# Altium schematic symbol library CHXXX.schlib: 532 symbols (part 7 of 8)
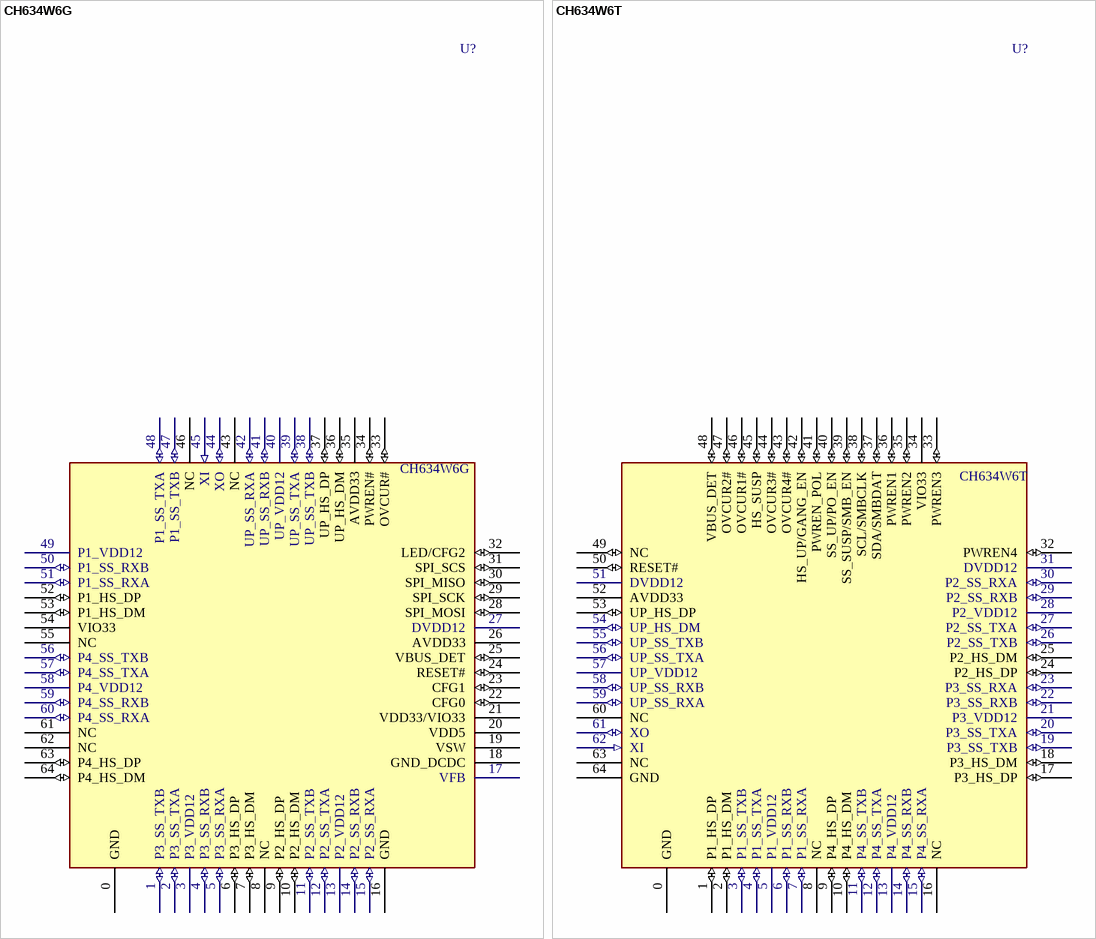
[diagram p76: symbols CH634W6G to CH634W6T]

## CH634W6T
designator U?
4 ports USB 3.0 SS hub
footprint QFN64_9X9
pins: 0 GND (power), 1 P1_HS_DP (io), 2 P1_HS_DM (io), 3 P1_SS_TXB (io), 4 P1_SS_TXA (io), 5 P1_VDD12 (power), 6 P1_SS_RXB (io), 7 P1_SS_RXA (io), 8 NC, 9 P4_HS_DP (io), 10 P4_HS_DM (io), 11 P4_SS_TXB (io), 12 P4_SS_TXA (io), 13 P4_VDD12 (power), 14 P4_SS_RXB (io), 15 P4_SS_RXA (io), 16 NC, 17 P3_HS_DP (io), 18 P3_HS_DM (io), 19 P3_SS_TXB (io), 20 P3_SS_TXA (io), 21 P3_VDD12 (power), 22 P3_SS_RXB (io), 23 P3_SS_RXA (io), 24 P2_HS_DP (io), 25 P2_HS_DM (io), 26 P2_SS_TXB (io), 27 P2_SS_TXA (io), 28 P2_VDD12 (power), 29 P2_SS_RXB (io), 30 P2_SS_RXA (io), 31 DVDD12 (power), 32 PWREN4 (io), 33 PWREN3 (io), 34 VIO33 (power), 35 PWREN2 (io), 36 PWREN1 (io), 37 SDA/SMBDAT (io), 38 SCL/SMBCLK (io), 39 SS_SUSP/SMB_EN (io), 40 SS_UP/PO_EN (io), 41 PWREN_POL (io), 42 HS_UP/GANG_EN (io), 43 OVCUR4# (io), 44 OVCUR3# (io), 45 HS_SUSP (io), 46 OVCUR1# (io), 47 OVCUR2# (io), 48 VBUS_DET (io), 49 NC (io), 50 RESET# (io), 51 DVDD12 (power), 52 AVDD33 (power), 53 UP_HS_DP (io), 54 UP_HS_DM (io), 55 UP_SS_TXB (io), 56 UP_SS_TXA (io), 57 UP_VDD12 (power), 58 UP_SS_RXB (io), 59 UP_SS_RXA (io), 60 NC, 61 XO (io), 62 XI (in), 63 NC, 64 GND (power)

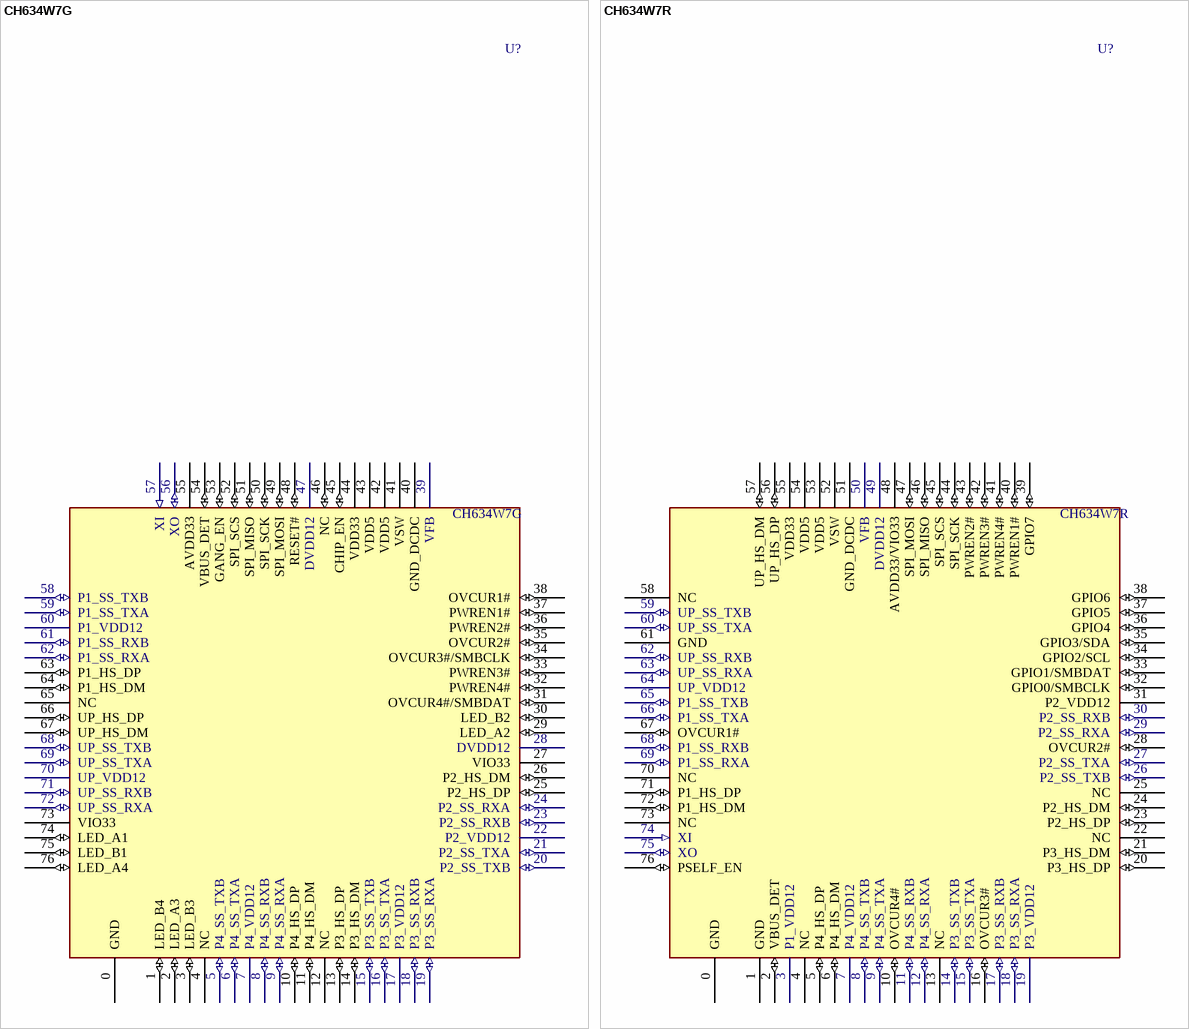
[diagram p57: symbols CH634W7G to CH634W7R]

## CH634W7G
designator U?
4 ports USB 3.0 SS hub
footprint QFN76_9X9
pins: 0 GND (power), 1 LED_B4 (io), 2 LED_A3 (io), 3 LED_B3 (io), 4 NC, 5 P4_SS_TXB (io), 6 P4_SS_TXA (io), 7 P4_VDD12 (power), 8 P4_SS_RXB (io), 9 P4_SS_RXA (io), 10 P4_HS_DP (io), 11 P4_HS_DM (io), 12 NC, 13 P3_HS_DP (io), 14 P3_HS_DM (io), 15 P3_SS_TXB (io), 16 P3_SS_TXA (io), 17 P3_VDD12 (power), 18 P3_SS_RXB (io), 19 P3_SS_RXA (io), 20 P2_SS_TXB (io), 21 P2_SS_TXA (io), 22 P2_VDD12 (power), 23 P2_SS_RXB (io), 24 P2_SS_RXA (io), 25 P2_HS_DP (io), 26 P2_HS_DM (io), 27 VIO33 (power), 28 DVDD12 (power), 29 LED_A2 (io), 30 LED_B2 (io), 31 OVCUR4#/SMBDAT (io), 32 PWREN4# (io), 33 PWREN3# (io), 34 OVCUR3#/SMBCLK (io), 35 OVCUR2# (io), 36 PWREN2# (io), 37 PWREN1# (io), 38 OVCUR1# (io), 39 VFB (power), 40 GND_DCDC (power), 41 VSW (power), 42 VDD5 (power), 43 VDD5 (power), 44 VDD33 (power), 45 CHIP_EN (io), 46 NC (io), 47 DVDD12 (power), 48 RESET# (io), 49 SPI_MOSI (io), 50 SPI_SCK (io), 51 SPI_MISO (io), 52 SPI_SCS (io), 53 GANG_EN (io), 54 VBUS_DET (io), 55 AVDD33 (power), 56 XO (io), 57 XI (in), 58 P1_SS_TXB (io), 59 P1_SS_TXA (io), 60 P1_VDD12 (power), 61 P1_SS_RXB (io), 62 P1_SS_RXA (io), 63 P1_HS_DP (io), 64 P1_HS_DM (io), 65 NC, 66 UP_HS_DP (io), 67 UP_HS_DM (io), 68 UP_SS_TXB (io), 69 UP_SS_TXA (io), 70 UP_VDD12 (power), 71 UP_SS_RXB (io), 72 UP_SS_RXA (io), 73 VIO33 (power), 74 LED_A1 (io), 75 LED_B1 (io), 76 LED_A4 (io)

## CH634W7R
designator U?
4 ports USB 3.0 SS hub
footprint QFN76_9X9
pins: 0 GND (power), 1 GND (power), 2 VBUS_DET (io), 3 P1_VDD12 (power), 4 NC, 5 P4_HS_DP (io), 6 P4_HS_DM (io), 7 P4_VDD12 (power), 8 P4_SS_TXB (io), 9 P4_SS_TXA (io), 10 OVCUR4# (io), 11 P4_SS_RXB (io), 12 P4_SS_RXA (io), 13 NC, 14 P3_SS_TXB (io), 15 P3_SS_TXA (io), 16 OVCUR3# (io), 17 P3_SS_RXB (io), 18 P3_SS_RXA (io), 19 P3_VDD12 (power), 20 P3_HS_DP (io), 21 P3_HS_DM (io), 22 NC, 23 P2_HS_DP (io), 24 P2_HS_DM (io), 25 NC, 26 P2_SS_TXB (io), 27 P2_SS_TXA (io), 28 OVCUR2# (io), 29 P2_SS_RXA (io), 30 P2_SS_RXB (io), 31 P2_VDD12 (power), 32 GPIO0/SMBCLK (io), 33 GPIO1/SMBDAT (io), 34 GPIO2/SCL (io), 35 GPIO3/SDA (io), 36 GPIO4 (io), 37 GPIO5 (io), 38 GPIO6 (io), 39 GPIO7 (io), 40 PWREN1# (io), 41 PWREN4# (io), 42 PWREN3# (io), 43 PWREN2# (io), 44 SPI_SCK (io), 45 SPI_SCS (io), 46 SPI_MISO (io), 47 SPI_MOSI (io), 48 AVDD33/VIO33 (power), 49 DVDD12 (power), 50 VFB (power), 51 GND_DCDC (power), 52 VSW (power), 53 VDD5 (power), 54 VDD5 (power), 55 VDD33 (power), 56 UP_HS_DP (io), 57 UP_HS_DM (io), 58 NC, 59 UP_SS_TXB (io), 60 UP_SS_TXA (io), 61 GND (power), 62 UP_SS_RXB (io), 63 UP_SS_RXA (io), 64 UP_VDD12 (power), 65 P1_SS_TXB (io), 66 P1_SS_TXA (io), 67 OVCUR1# (io), 68 P1_SS_RXB (io), 69 P1_SS_RXA (io), 70 NC, 71 P1_HS_DP (io), 72 P1_HS_DM (io), 73 NC, 74 XI (in), 75 XO (io), 76 PSELF_EN (io)

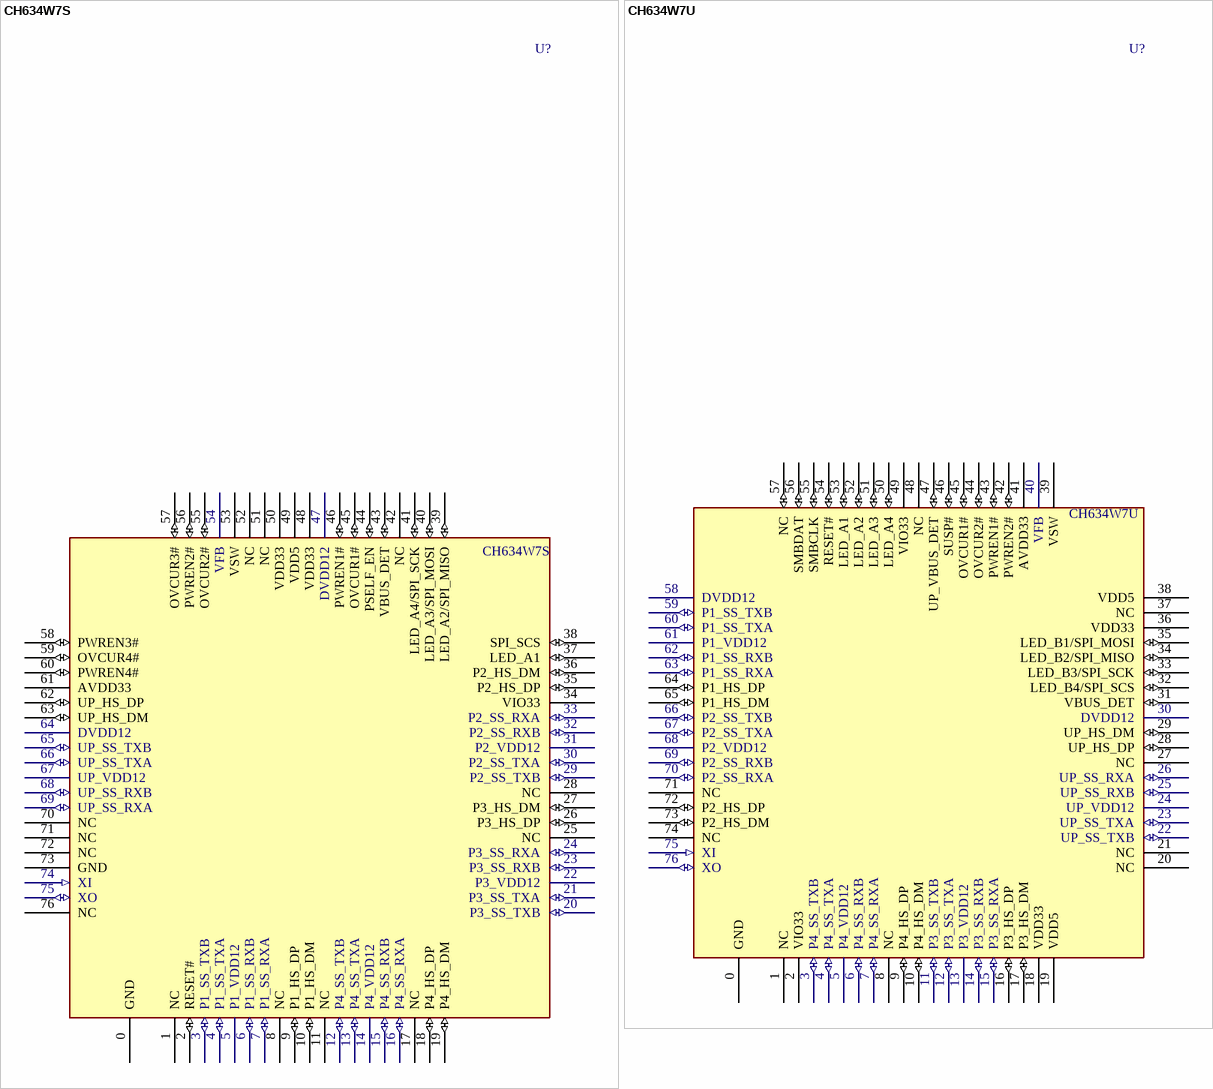
[diagram p58: symbols CH634W7S to CH634W7U]

## CH634W7S
designator U?
4 ports USB 3.0 SS hub
footprint QFN76_9X9
pins: 0 GND (power), 1 NC, 2 RESET# (io), 3 P1_SS_TXB (io), 4 P1_SS_TXA (io), 5 P1_VDD12 (power), 6 P1_SS_RXB (io), 7 P1_SS_RXA (io), 8 NC, 9 P1_HS_DP (io), 10 P1_HS_DM (io), 11 NC, 12 P4_SS_TXB (io), 13 P4_SS_TXA (io), 14 P4_VDD12 (power), 15 P4_SS_RXB (io), 16 P4_SS_RXA (io), 17 NC, 18 P4_HS_DP (io), 19 P4_HS_DM (io), 20 P3_SS_TXB (io), 21 P3_SS_TXA (io), 22 P3_VDD12 (power), 23 P3_SS_RXB (io), 24 P3_SS_RXA (io), 25 NC, 26 P3_HS_DP (io), 27 P3_HS_DM (io), 28 NC, 29 P2_SS_TXB (io), 30 P2_SS_TXA (io), 31 P2_VDD12 (power), 32 P2_SS_RXB (io), 33 P2_SS_RXA (io), 34 VIO33 (power), 35 P2_HS_DP (io), 36 P2_HS_DM (io), 37 LED_A1 (io), 38 SPI_SCS (io), 39 LED_A2/SPI_MISO (io), 40 LED_A3/SPI_MOSI (io), 41 LED_A4/SPI_SCK (io), 42 NC, 43 VBUS_DET (io), 44 PSELF_EN (io), 45 OVCUR1# (io), 46 PWREN1# (io), 47 DVDD12 (power), 48 VDD33 (power), 49 VDD5 (power), 50 VDD33 (power), 51 NC, 52 NC, 53 VSW (power), 54 VFB (power), 55 OVCUR2# (io), 56 PWREN2# (io), 57 OVCUR3# (io), 58 PWREN3# (io), 59 OVCUR4# (io), 60 PWREN4# (io), 61 AVDD33 (power), 62 UP_HS_DP (io), 63 UP_HS_DM (io), 64 DVDD12 (power), 65 UP_SS_TXB (io), 66 UP_SS_TXA (io), 67 UP_VDD12 (power), 68 UP_SS_RXB (io), 69 UP_SS_RXA (io), 70 NC, 71 NC, 72 NC, 73 GND (power), 74 XI (in), 75 XO (io), 76 NC

## CH634W7U
designator U?
4 ports USB 3.0 SS hub
footprint QFN76_9X9
pins: 0 GND (power), 1 NC, 2 VIO33 (power), 3 P4_SS_TXB (io), 4 P4_SS_TXA (io), 5 P4_VDD12 (power), 6 P4_SS_RXB (io), 7 P4_SS_RXA (io), 8 NC, 9 P4_HS_DP (io), 10 P4_HS_DM (io), 11 P3_SS_TXB (io), 12 P3_SS_TXA (io), 13 P3_VDD12 (power), 14 P3_SS_RXB (io), 15 P3_SS_RXA (io), 16 P3_HS_DP (io), 17 P3_HS_DM (io), 18 VDD33 (power), 19 VDD5 (power), 20 NC, 21 NC, 22 UP_SS_TXB (io), 23 UP_SS_TXA (io), 24 UP_VDD12 (power), 25 UP_SS_RXB (io), 26 UP_SS_RXA (io), 27 NC, 28 UP_HS_DP (io), 29 UP_HS_DM (io), 30 DVDD12 (power), 31 VBUS_DET (io), 32 LED_B4/SPI_SCS (io), 33 LED_B3/SPI_SCK (io), 34 LED_B2/SPI_MISO (io), 35 LED_B1/SPI_MOSI (io), 36 VDD33 (power), 37 NC, 38 VDD5 (power), 39 VSW (power), 40 VFB (power), 41 AVDD33 (power), 42 PWREN2# (io), 43 PWREN1# (io), 44 OVCUR2# (io), 45 OVCUR1# (io), 46 SUSP# (io), 47 UP_VBUS_DET (io), 48 NC, 49 VIO33 (power), 50 LED_A4 (io), 51 LED_A3 (io), 52 LED_A2 (io), 53 LED_A1 (io), 54 RESET# (io), 55 SMBCLK (io), 56 SMBDAT (io), 57 NC (io), 58 DVDD12 (power), 59 P1_SS_TXB (io), 60 P1_SS_TXA (io), 61 P1_VDD12 (power), 62 P1_SS_RXB (io), 63 P1_SS_RXA (io), 64 P1_HS_DP (io), 65 P1_HS_DM (io), 66 P2_SS_TXB (io), 67 P2_SS_TXA (io), 68 P2_VDD12 (power), 69 P2_SS_RXB (io), 70 P2_SS_RXA (io), 71 NC, 72 P2_HS_DP (io), 73 P2_HS_DM (io), 74 NC, 75 XI (in), 76 XO (io)

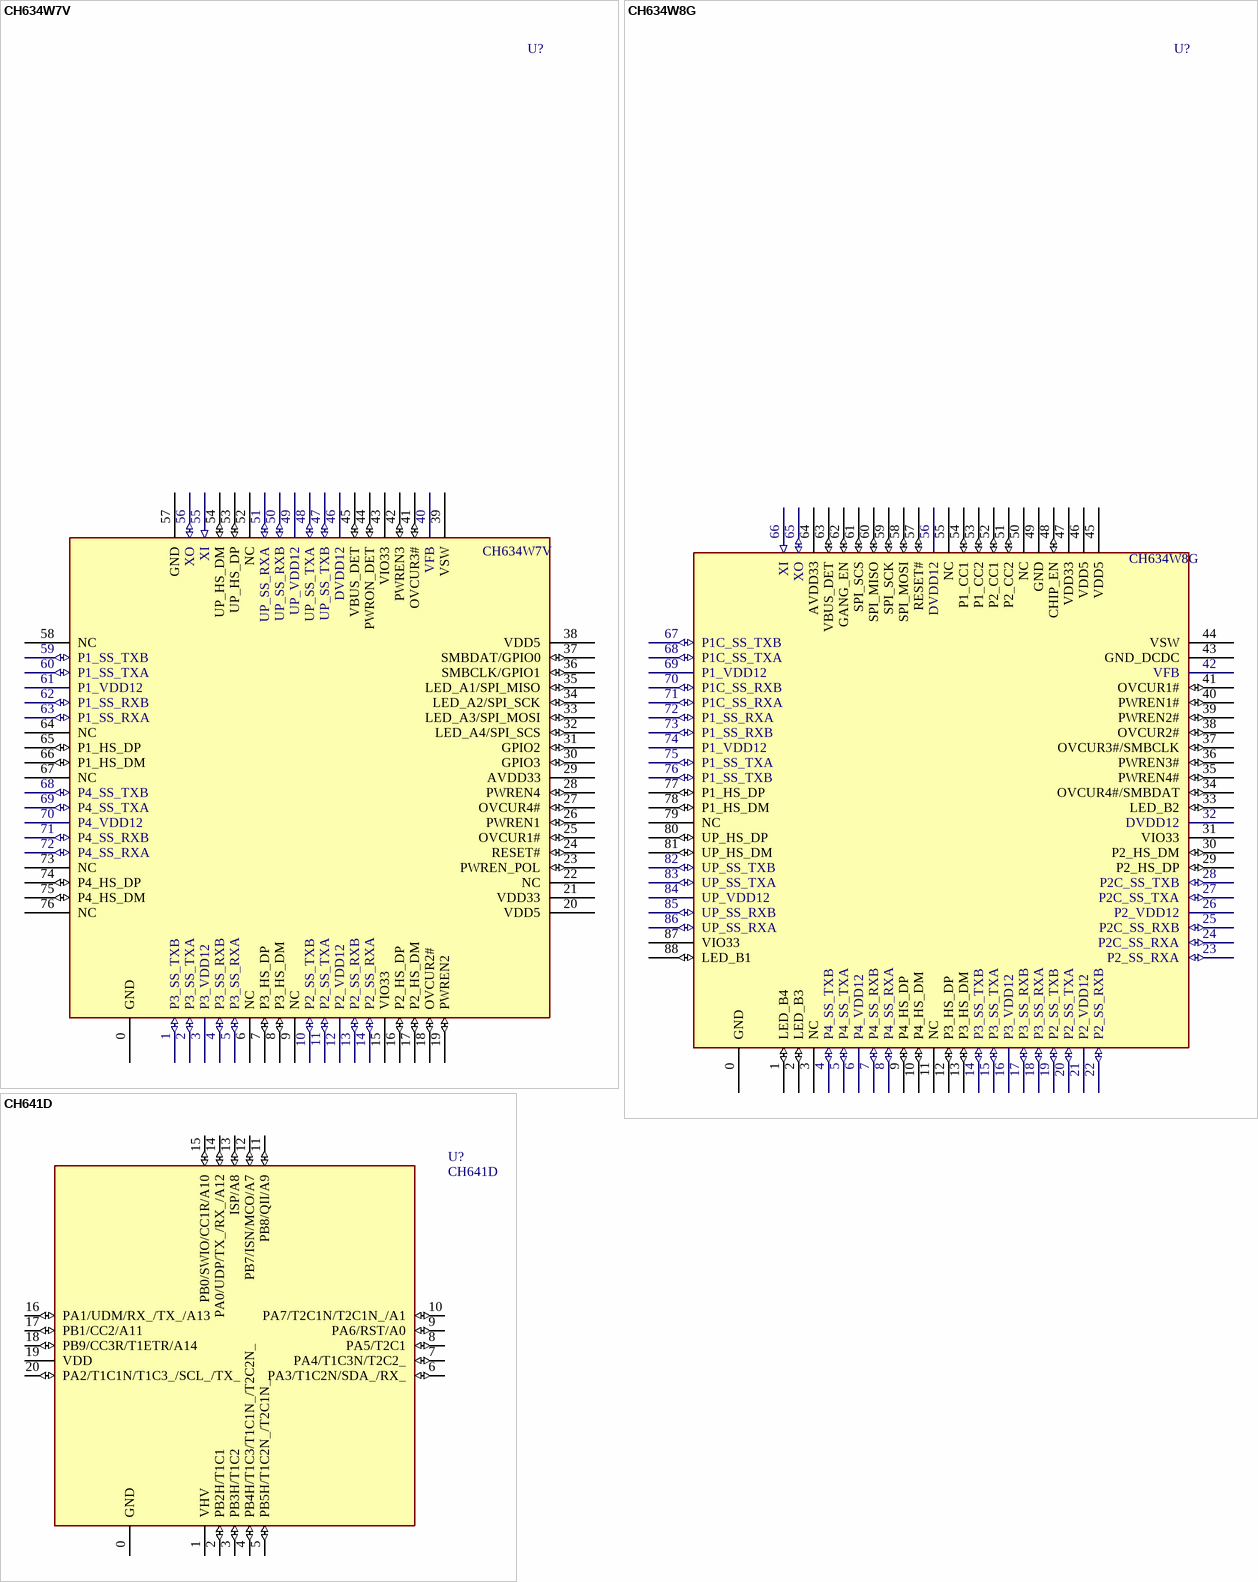
[diagram p59: symbols CH634W7V to CH641D]

## CH634W7V
designator U?
4 ports USB 3.0 SS hub
footprint QFN76_9X9
pins: 0 GND (power), 1 P3_SS_TXB (io), 2 P3_SS_TXA (io), 3 P3_VDD12 (power), 4 P3_SS_RXB (io), 5 P3_SS_RXA (io), 6 NC, 7 P3_HS_DP (io), 8 P3_HS_DM (io), 9 NC, 10 P2_SS_TXB (io), 11 P2_SS_TXA (io), 12 P2_VDD12 (power), 13 P2_SS_RXB (io), 14 P2_SS_RXA (io), 15 VIO33 (power), 16 P2_HS_DP (io), 17 P2_HS_DM (io), 18 OVCUR2# (io), 19 PWREN2 (io), 20 VDD5 (power), 21 VDD33 (power), 22 NC, 23 PWREN_POL (io), 24 RESET# (io), 25 OVCUR1# (io), 26 PWREN1 (io), 27 OVCUR4# (io), 28 PWREN4 (io), 29 AVDD33 (power), 30 GPIO3 (io), 31 GPIO2 (io), 32 LED_A4/SPI_SCS (io), 33 LED_A3/SPI_MOSI (io), 34 LED_A2/SPI_SCK (io), 35 LED_A1/SPI_MISO (io), 36 SMBCLK/GPIO1 (io), 37 SMBDAT/GPIO0 (io), 38 VDD5 (power), 39 VSW (power), 40 VFB (power), 41 OVCUR3# (io), 42 PWREN3 (io), 43 VIO33 (power), 44 PWRON_DET (io), 45 VBUS_DET (io), 46 DVDD12 (power), 47 UP_SS_TXB (io), 48 UP_SS_TXA (io), 49 UP_VDD12 (power), 50 UP_SS_RXB (io), 51 UP_SS_RXA (io), 52 NC, 53 UP_HS_DP (io), 54 UP_HS_DM (io), 55 XI (in), 56 XO (io), 57 GND (power), 58 NC, 59 P1_SS_TXB (io), 60 P1_SS_TXA (io), 61 P1_VDD12 (power), 62 P1_SS_RXB (io), 63 P1_SS_RXA (io), 64 NC, 65 P1_HS_DP (io), 66 P1_HS_DM (io), 67 NC, 68 P4_SS_TXB (io), 69 P4_SS_TXA (io), 70 P4_VDD12 (power), 71 P4_SS_RXB (io), 72 P4_SS_RXA (io), 73 NC, 74 P4_HS_DP (io), 75 P4_HS_DM (io), 76 NC

## CH634W8G
designator U?
4 ports USB 3.0 SS hub
footprint QFN88_10X10
pins: 0 GND (power), 1 LED_B4 (io), 2 LED_B3 (io), 3 NC, 4 P4_SS_TXB (io), 5 P4_SS_TXA (io), 6 P4_VDD12 (power), 7 P4_SS_RXB (io), 8 P4_SS_RXA (io), 9 P4_HS_DP (io), 10 P4_HS_DM (io), 11 NC, 12 P3_HS_DP (io), 13 P3_HS_DM (io), 14 P3_SS_TXB (io), 15 P3_SS_TXA (io), 16 P3_VDD12 (power), 17 P3_SS_RXB (io), 18 P3_SS_RXA (io), 19 P2_SS_TXB (io), 20 P2_SS_TXA (io), 21 P2_VDD12 (power), 22 P2_SS_RXB (io), 23 P2_SS_RXA (io), 24 P2C_SS_RXA (io), 25 P2C_SS_RXB (io), 26 P2_VDD12 (power), 27 P2C_SS_TXA (io), 28 P2C_SS_TXB (io), 29 P2_HS_DP (io), 30 P2_HS_DM (io), 31 VIO33 (power), 32 DVDD12 (power), 33 LED_B2 (io), 34 OVCUR4#/SMBDAT (io), 35 PWREN4# (io), 36 PWREN3# (io), 37 OVCUR3#/SMBCLK (io), 38 OVCUR2# (io), 39 PWREN2# (io), 40 PWREN1# (io), 41 OVCUR1# (io), 42 VFB (power), 43 GND_DCDC (power), 44 VSW (power), 45 VDD5 (power), 46 VDD5 (power), 47 VDD33 (power), 48 CHIP_EN (io), 49 GND (power), 50 NC, 51 P2_CC2 (io), 52 P2_CC1 (io), 53 P1_CC2 (io), 54 P1_CC1 (io), 55 NC, 56 DVDD12 (power), 57 RESET# (io), 58 SPI_MOSI (io), 59 SPI_SCK (io), 60 SPI_MISO (io), 61 SPI_SCS (io), 62 GANG_EN (io), 63 VBUS_DET (io), 64 AVDD33 (power), 65 XO (io), 66 XI (in), 67 P1C_SS_TXB (io), 68 P1C_SS_TXA (io), 69 P1_VDD12 (power), 70 P1C_SS_RXB (io), 71 P1C_SS_RXA (io), 72 P1_SS_RXA (io), 73 P1_SS_RXB (io), 74 P1_VDD12 (power), 75 P1_SS_TXA (io), 76 P1_SS_TXB (io), 77 P1_HS_DP (io), 78 P1_HS_DM (io), 79 NC, 80 UP_HS_DP (io), 81 UP_HS_DM (io), 82 UP_SS_TXB (io), 83 UP_SS_TXA (io), 84 UP_VDD12 (power), 85 UP_SS_RXB (io), 86 UP_SS_RXA (io), 87 VIO33 (power), 88 LED_B1 (io)

## CH641D
designator U?
RISC-V MCU with PD/ADC/UART/OA, for wireless charging
footprint QFN20_3X3
pins: 0 GND (power), 1 VHV (power), 2 PB2H/T1C1 (io), 3 PB3H/T1C2 (io), 4 PB4H/T1C3/T1C1N_/T2C2N_ (io), 5 PB5H/T1C2N_/T2C1N_ (io), 6 PA3/T1C2N/SDA_/RX_ (io), 7 PA4/T1C3N/T2C2_ (io), 8 PA5/T2C1 (io), 9 PA6/RST/A0 (io), 10 PA7/T2C1N/T2C1N_/A1 (io), 11 PB8/QII/A9 (io), 12 PB7/ISN/MCO/A7 (io), 13 ISP/A8 (io), 14 PA0/UDP/TX_/RX_/A12 (io), 15 PB0/SWIO/CC1R/A10 (io), 16 PA1/UDM/RX_/TX_/A13 (io), 17 PB1/CC2/A11 (io), 18 PB9/CC3R/T1ETR/A14 (io), 19 VDD (power), 20 PA2/T1C1N/T1C3_/SCL_/TX_ (io)
2 alternate drawings of the same symbol

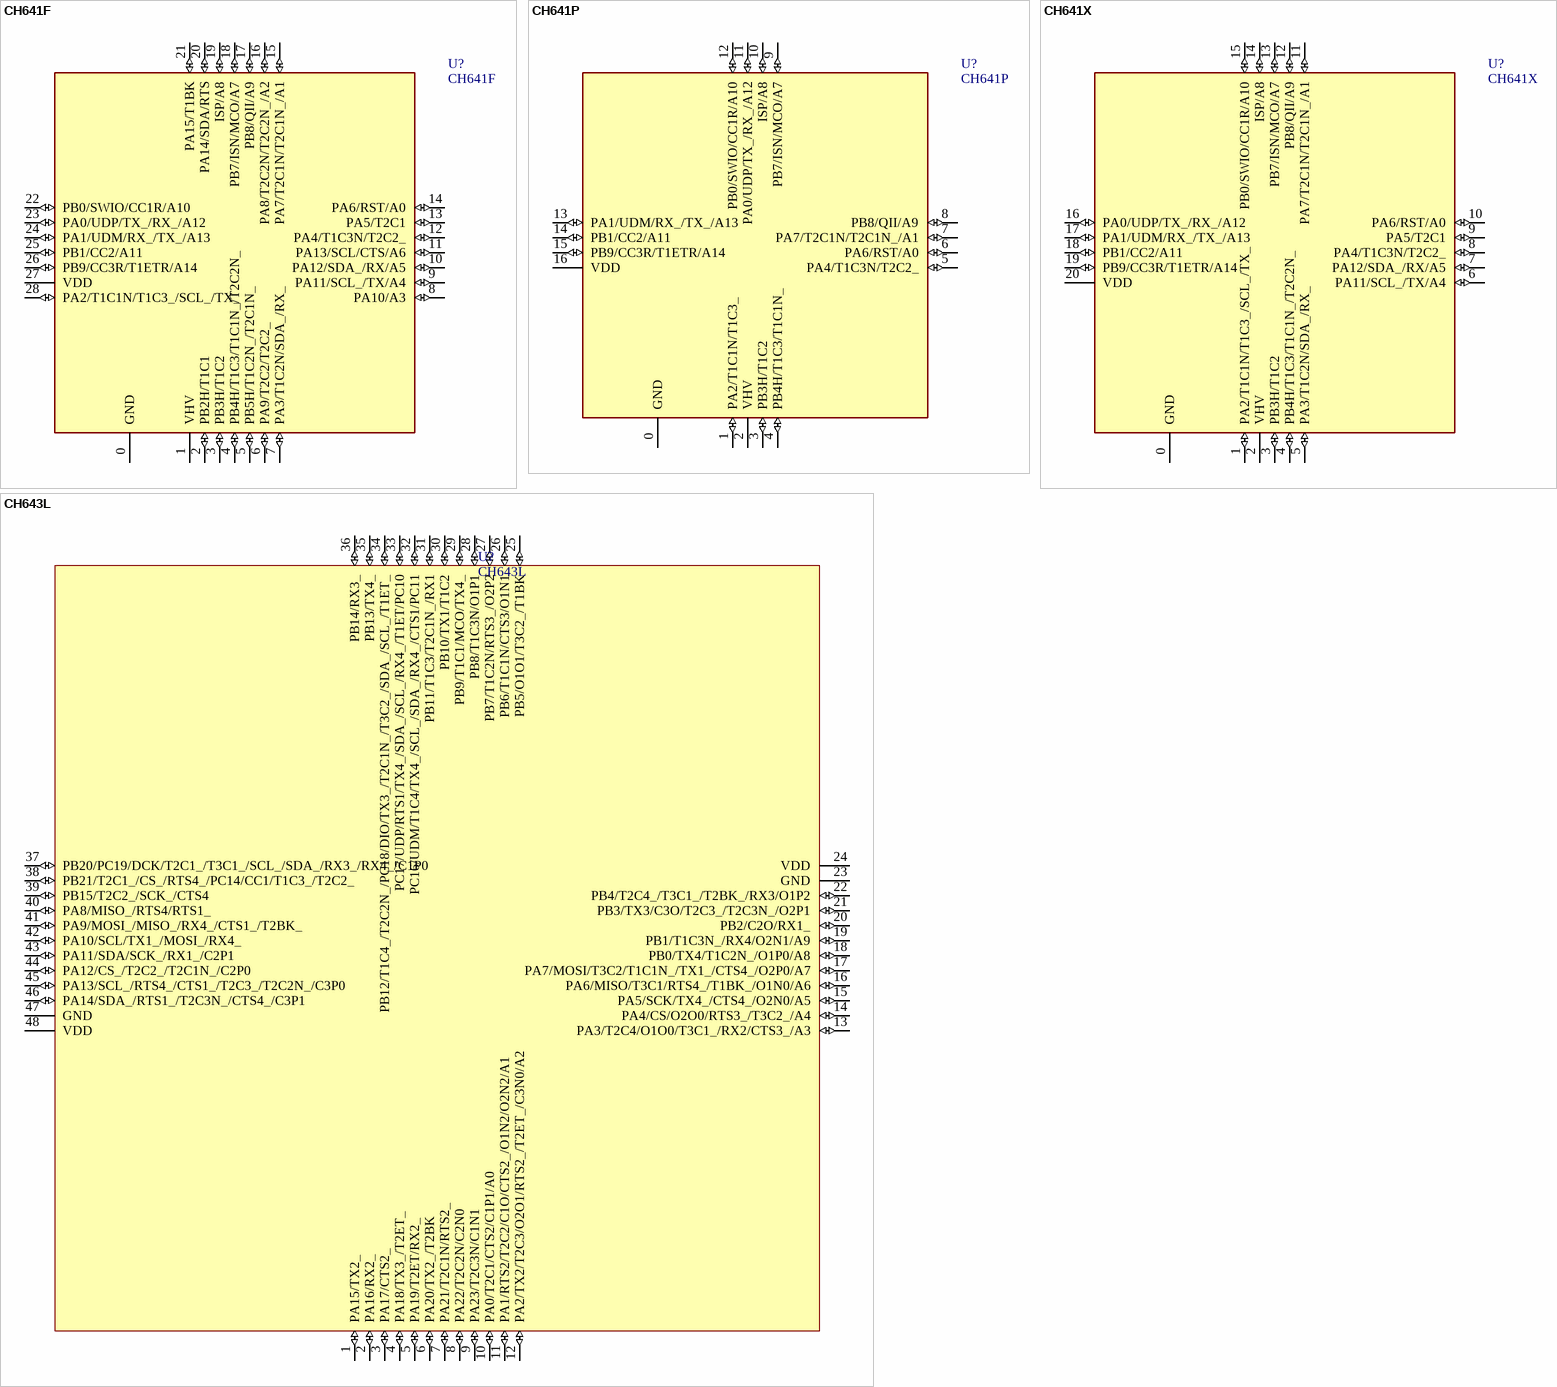
[diagram p60: symbols CH641F to CH643L]

## CH641F
designator U?
RISC-V MCU with PD/ADC/UART/OA, for wireless charging
footprint QFN28_4X4
pins: 0 GND (power), 1 VHV (power), 2 PB2H/T1C1 (io), 3 PB3H/T1C2 (io), 4 PB4H/T1C3/T1C1N_/T2C2N_ (io), 5 PB5H/T1C2N_/T2C1N_ (io), 6 PA9/T2C2/T2C2_ (io), 7 PA3/T1C2N/SDA_/RX_ (io), 8 PA10/A3 (io), 9 PA11/SCL_/TX/A4 (io), 10 PA12/SDA_/RX/A5 (io), 11 PA13/SCL/CTS/A6 (io), 12 PA4/T1C3N/T2C2_ (io), 13 PA5/T2C1 (io), 14 PA6/RST/A0 (io), 15 PA7/T2C1N/T2C1N_/A1 (io), 16 PA8/T2C2N/T2C2N_/A2 (io), 17 PB8/QII/A9 (io), 18 PB7/ISN/MCO/A7 (io), 19 ISP/A8 (io), 20 PA14/SDA/RTS (io), 21 PA15/T1BK (io), 22 PB0/SWIO/CC1R/A10 (io), 23 PA0/UDP/TX_/RX_/A12 (io), 24 PA1/UDM/RX_/TX_/A13 (io), 25 PB1/CC2/A11 (io), 26 PB9/CC3R/T1ETR/A14 (io), 27 VDD (power), 28 PA2/T1C1N/T1C3_/SCL_/TX_ (io)
2 alternate drawings of the same symbol

## CH641P
designator U?
RISC-V MCU with PD/ADC/UART/OA, for wireless charging
footprint QFN16_3X3
pins: 0 GND (power), 1 PA2/T1C1N/T1C3_ (io), 2 VHV (power), 3 PB3H/T1C2 (io), 4 PB4H/T1C3/T1C1N_ (io), 5 PA4/T1C3N/T2C2_ (io), 6 PA6/RST/A0 (io), 7 PA7/T2C1N/T2C1N_/A1 (io), 8 PB8/QII/A9 (io), 9 PB7/ISN/MCO/A7 (io), 10 ISP/A8 (io), 11 PA0/UDP/TX_/RX_/A12 (io), 12 PB0/SWIO/CC1R/A10 (io), 13 PA1/UDM/RX_/TX_/A13 (io), 14 PB1/CC2/A11 (io), 15 PB9/CC3R/T1ETR/A14 (io), 16 VDD (power)
2 alternate drawings of the same symbol

## CH641X
designator U?
RISC-V MCU with PD/ADC/UART/OA, for wireless charging
footprint QFN20_3X3
pins: 0 GND (power), 1 PA2/T1C1N/T1C3_/SCL_/TX_ (io), 2 VHV (power), 3 PB3H/T1C2 (io), 4 PB4H/T1C3/T1C1N_/T2C2N_ (io), 5 PA3/T1C2N/SDA_/RX_ (io), 6 PA11/SCL_/TX/A4 (io), 7 PA12/SDA_/RX/A5 (io), 8 PA4/T1C3N/T2C2_ (io), 9 PA5/T2C1 (io), 10 PA6/RST/A0 (io), 11 PA7/T2C1N/T2C1N_/A1 (io), 12 PB8/QII/A9 (io), 13 PB7/ISN/MCO/A7 (io), 14 ISP/A8 (io), 15 PB0/SWIO/CC1R/A10 (io), 16 PA0/UDP/TX_/RX_/A12 (io), 17 PA1/UDM/RX_/TX_/A13 (io), 18 PB1/CC2/A11 (io), 19 PB9/CC3R/T1ETR/A14 (io), 20 VDD (power)
2 alternate drawings of the same symbol

## CH643L
designator U?
RISC-V MCU with USB/RGB/ADC/SPI/I2C/4*UART/PD
footprint LQFP48 (Footprint not found)
pins: 1 PA15/TX2_ (io), 2 PA16/RX2_ (io), 3 PA17/CTS2_ (io), 4 PA18/TX3_/T2ET_ (io), 5 PA19/T2ET/RX2_ (io), 6 PA20/TX2_/T2BK (io), 7 PA21/T2C1N/RTS2_ (io), 8 PA22/T2C2N/C2N0 (io), 9 PA23/T2C3N/C1N1 (io), 10 PA0/T2C1/CTS2/C1P1/A0 (io), 11 PA1/RTS2/T2C2/C1O/CTS2_/O1N2/O2N2/A1 (io), 12 PA2/TX2/T2C3/O2O1/RTS2_/T2ET_/C3N0/A2 (io), 13 PA3/T2C4/O1O0/T3C1_/RX2/CTS3_/A3 (io), 14 PA4/CS/O2O0/RTS3_/T3C2_/A4 (io), 15 PA5/SCK/TX4_/CTS4_/O2N0/A5 (io), 16 PA6/MISO/T3C1/RTS4_/T1BK_/O1N0/A6 (io), 17 PA7/MOSI/T3C2/T1C1N_/TX1_/CTS4_/O2P0/A7 (io), 18 PB0/TX4/T1C2N_/O1P0/A8 (io), 19 PB1/T1C3N_/RX4/O2N1/A9 (io), 20 PB2/C2O/RX1_ (io), 21 PB3/TX3/C3O/T2C3_/T2C3N_/O2P1 (io), 22 PB4/T2C4_/T3C1_/T2BK_/RX3/O1P2 (io), 23 GND (power), 24 VDD (power), 25 PB5/O1O1/T3C2_/T1BK (io), 26 PB6/T1C1N/CTS3/O1N1 (io), 27 PB7/T1C2N/RTS3_/O2P2 (io), 28 PB8/T1C3N/O1P1 (io), 29 PB9/T1C1/MCO/TX4_ (io), 30 PB10/TX1/T1C2 (io), 31 PB11/T1C3/T2C1N_/RX1 (io), 32 PC16/UDM/T1C4/TX4_/SCL_/SDA_/RX4_/CTS1/PC11 (io), 33 PC17/UDP/RTS1/TX4_/SDA_/SCL_/RX4_/T1ET/PC10 (io), 34 PB12/T1C4_/T2C2N_/PC18/DIO/TX3_/T2C1N_/T3C2_/SDA_/SCL_/T1ET_ (io), 35 PB13/TX4_ (io), 36 PB14/RX3_ (io), 37 PB20/PC19/DCK/T2C1_/T3C1_/SCL_/SDA_/RX3_/RX4_/C1P0 (io), 38 PB21/T2C1_/CS_/RTS4_/PC14/CC1/T1C3_/T2C2_ (io), 39 PB15/T2C2_/SCK_/CTS4 (io), 40 PA8/MISO_/RTS4/RTS1_ (io), 41 PA9/MOSI_/MISO_/RX4_/CTS1_/T2BK_ (io), 42 PA10/SCL/TX1_/MOSI_/RX4_ (io), 43 PA11/SDA/SCK_/RX1_/C2P1 (io), 44 PA12/CS_/T2C2_/T2C1N_/C2P0 (io), 45 PA13/SCL_/RTS4_/CTS1_/T2C3_/T2C2N_/C3P0 (io), 46 PA14/SDA_/RTS1_/T2C3N_/CTS4_/C3P1 (io), 47 GND (power), 48 VDD (power)

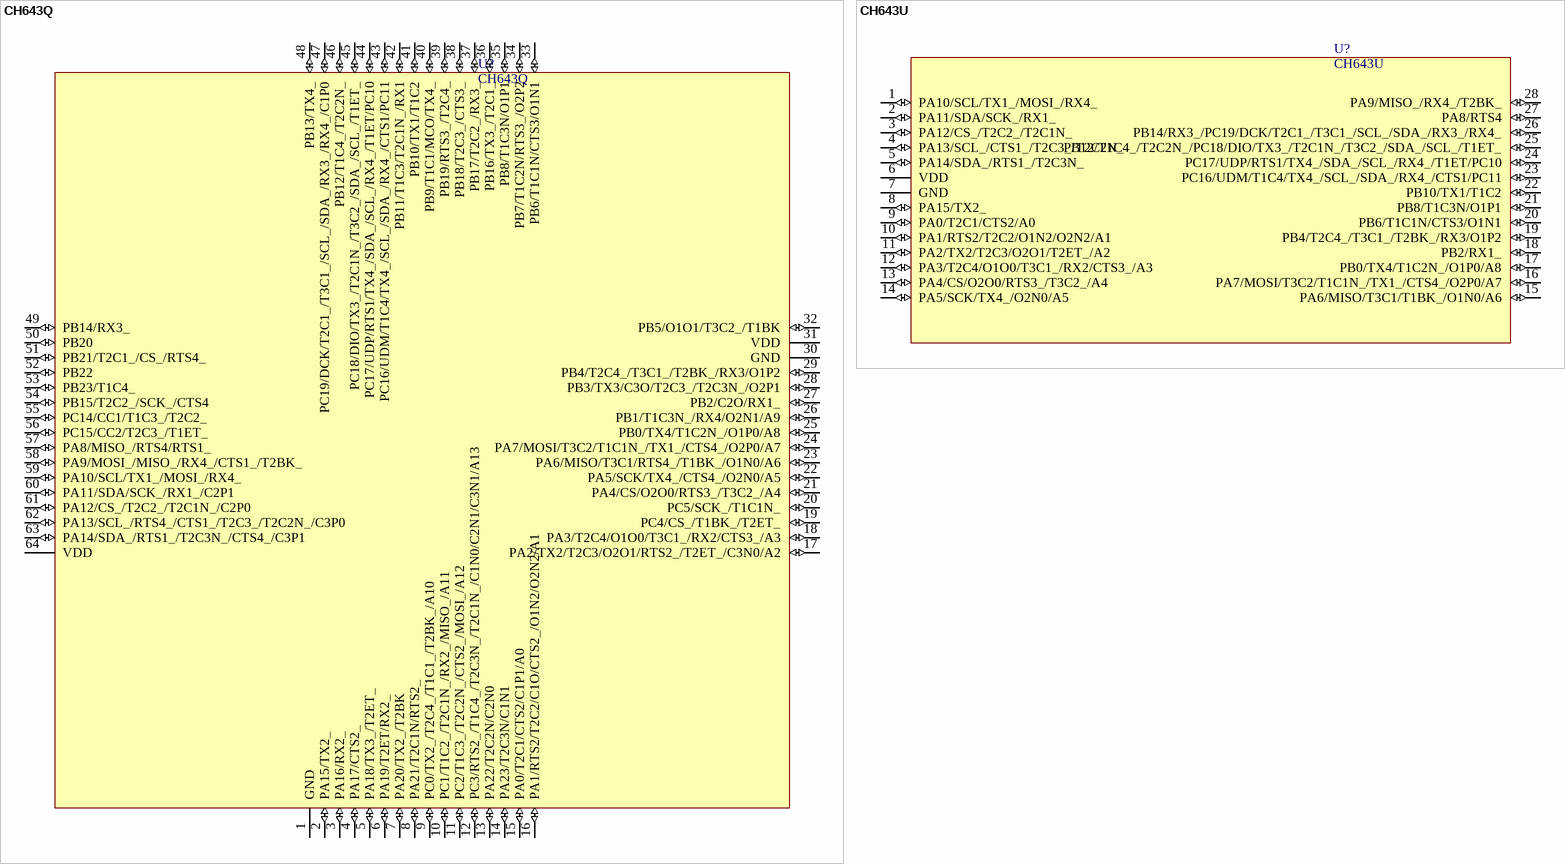
[diagram p61: symbols CH643Q to CH643U]

## CH643Q
designator U?
RISC-V MCU with USB/RGB/ADC/SPI/I2C/4*UART/PD
footprint LQFP64 (Footprint not found)
pins: 1 GND (power), 2 PA15/TX2_ (io), 3 PA16/RX2_ (io), 4 PA17/CTS2_ (io), 5 PA18/TX3_/T2ET_ (io), 6 PA19/T2ET/RX2_ (io), 7 PA20/TX2_/T2BK (io), 8 PA21/T2C1N/RTS2_ (io), 9 PC0/TX2_/T2C4_/T1C1_/T2BK_/A10 (io), 10 PC1/T1C2_/T2C1N_/RX2_/MISO_/A11 (io), 11 PC2/T1C3_/T2C2N_/CTS2_/MOSI_/A12 (io), 12 PC3/RTS2_/T1C4_/T2C3N_/T2C1N_/C1N0/C2N1/C3N1/A13 (io), 13 PA22/T2C2N/C2N0 (io), 14 PA23/T2C3N/C1N1 (io), 15 PA0/T2C1/CTS2/C1P1/A0 (io), 16 PA1/RTS2/T2C2/C1O/CTS2_/O1N2/O2N2/A1 (io), 17 PA2/TX2/T2C3/O2O1/RTS2_/T2ET_/C3N0/A2 (io), 18 PA3/T2C4/O1O0/T3C1_/RX2/CTS3_/A3 (io), 19 PC4/CS_/T1BK_/T2ET_ (io), 20 PC5/SCK_/T1C1N_ (io), 21 PA4/CS/O2O0/RTS3_/T3C2_/A4 (io), 22 PA5/SCK/TX4_/CTS4_/O2N0/A5 (io), 23 PA6/MISO/T3C1/RTS4_/T1BK_/O1N0/A6 (io), 24 PA7/MOSI/T3C2/T1C1N_/TX1_/CTS4_/O2P0/A7 (io), 25 PB0/TX4/T1C2N_/O1P0/A8 (io), 26 PB1/T1C3N_/RX4/O2N1/A9 (io), 27 PB2/C2O/RX1_ (io), 28 PB3/TX3/C3O/T2C3_/T2C3N_/O2P1 (io), 29 PB4/T2C4_/T3C1_/T2BK_/RX3/O1P2 (io), 30 GND (power), 31 VDD (power), 32 PB5/O1O1/T3C2_/T1BK (io), 33 PB6/T1C1N/CTS3/O1N1 (io), 34 PB7/T1C2N/RTS3_/O2P2 (io), 35 PB8/T1C3N/O1P1 (io), 36 PB16/TX3_/T2C1_ (io), 37 PB17/T2C2_/RX3_ (io), 38 PB18/T2C3_/CTS3_ (io), 39 PB19/RTS3_/T2C4_ (io), 40 PB9/T1C1/MCO/TX4_ (io), 41 PB10/TX1/T1C2 (io), 42 PB11/T1C3/T2C1N_/RX1 (io), 43 PC16/UDM/T1C4/TX4_/SCL_/SDA_/RX4_/CTS1/PC11 (io), 44 PC17/UDP/RTS1/TX4_/SDA_/SCL_/RX4_/T1ET/PC10 (io), 45 PC18/DIO/TX3_/T2C1N_/T3C2_/SDA_/SCL_/T1ET_ (io), 46 PB12/T1C4_/T2C2N_ (io), 47 PC19/DCK/T2C1_/T3C1_/SCL_/SDA_/RX3_/RX4_/C1P0 (io), 48 PB13/TX4_ (io), 49 PB14/RX3_ (io), 50 PB20 (io), 51 PB21/T2C1_/CS_/RTS4_ (io), 52 PB22 (io), 53 PB23/T1C4_ (io), 54 PB15/T2C2_/SCK_/CTS4 (io), 55 PC14/CC1/T1C3_/T2C2_ (io), 56 PC15/CC2/T2C3_/T1ET_ (io), 57 PA8/MISO_/RTS4/RTS1_ (io), 58 PA9/MOSI_/MISO_/RX4_/CTS1_/T2BK_ (io), 59 PA10/SCL/TX1_/MOSI_/RX4_ (io), 60 PA11/SDA/SCK_/RX1_/C2P1 (io), 61 PA12/CS_/T2C2_/T2C1N_/C2P0 (io), 62 PA13/SCL_/RTS4_/CTS1_/T2C3_/T2C2N_/C3P0 (io), 63 PA14/SDA_/RTS1_/T2C3N_/CTS4_/C3P1 (io), 64 VDD (power)

## CH643U
designator U?
RISC-V MCU with USB/RGB/ADC/SPI/I2C/4*UART
footprint QSOP28 (Footprint not found)
pins: 1 PA10/SCL/TX1_/MOSI_/RX4_ (io), 2 PA11/SDA/SCK_/RX1_ (io), 3 PA12/CS_/T2C2_/T2C1N_ (io), 4 PA13/SCL_/CTS1_/T2C3_/T2C2N_ (io), 5 PA14/SDA_/RTS1_/T2C3N_ (io), 6 VDD (power), 7 GND (power), 8 PA15/TX2_ (io), 9 PA0/T2C1/CTS2/A0 (io), 10 PA1/RTS2/T2C2/O1N2/O2N2/A1 (io), 11 PA2/TX2/T2C3/O2O1/T2ET_/A2 (io), 12 PA3/T2C4/O1O0/T3C1_/RX2/CTS3_/A3 (io), 13 PA4/CS/O2O0/RTS3_/T3C2_/A4 (io), 14 PA5/SCK/TX4_/O2N0/A5 (io), 15 PA6/MISO/T3C1/T1BK_/O1N0/A6 (io), 16 PA7/MOSI/T3C2/T1C1N_/TX1_/CTS4_/O2P0/A7 (io), 17 PB0/TX4/T1C2N_/O1P0/A8 (io), 18 PB2/RX1_ (io), 19 PB4/T2C4_/T3C1_/T2BK_/RX3/O1P2 (io), 20 PB6/T1C1N/CTS3/O1N1 (io), 21 PB8/T1C3N/O1P1 (io), 22 PB10/TX1/T1C2 (io), 23 PC16/UDM/T1C4/TX4_/SCL_/SDA_/RX4_/CTS1/PC11 (io), 24 PC17/UDP/RTS1/TX4_/SDA_/SCL_/RX4_/T1ET/PC10 (io), 25 PB12/T1C4_/T2C2N_/PC18/DIO/TX3_/T2C1N_/T3C2_/SDA_/SCL_/T1ET_ (io), 26 PB14/RX3_/PC19/DCK/T2C1_/T3C1_/SCL_/SDA_/RX3_/RX4_ (io), 27 PA8/RTS4 (io), 28 PA9/MISO_/RX4_/T2BK_ (io)

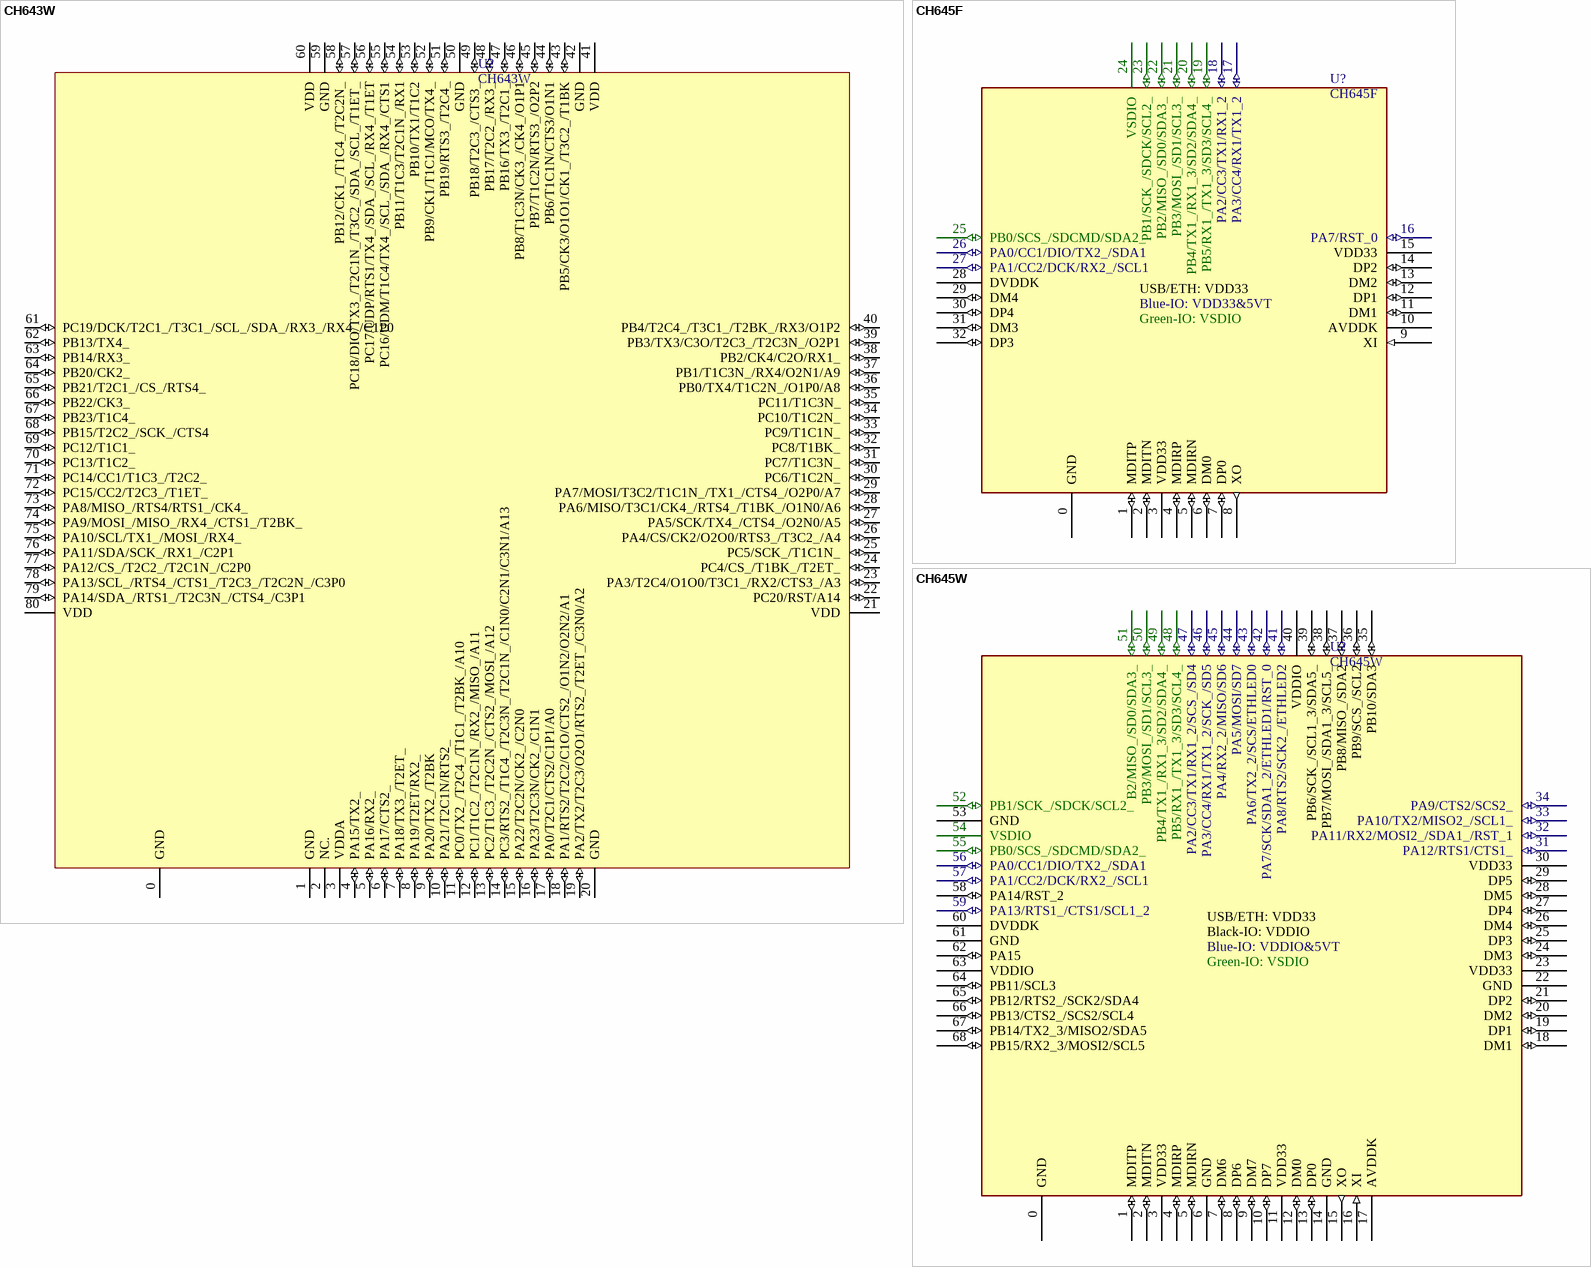
[diagram p62: symbols CH643W to CH645W]

## CH643W
designator U?
RISC-V MCU with USB/RGB/ADC/SPI/I2C/4*UART/PD
footprint QFN80_9X9 (Footprint not found)
pins: 0 GND (power), 1 GND (power), 2 NC., 3 VDDA (power), 4 PA15/TX2_ (io), 5 PA16/RX2_ (io), 6 PA17/CTS2_ (io), 7 PA18/TX3_/T2ET_ (io), 8 PA19/T2ET/RX2_ (io), 9 PA20/TX2_/T2BK (io), 10 PA21/T2C1N/RTS2_ (io), 11 PC0/TX2_/T2C4_/T1C1_/T2BK_/A10 (io), 12 PC1/T1C2_/T2C1N_/RX2_/MISO_/A11 (io), 13 PC2/T1C3_/T2C2N_/CTS2_/MOSI_/A12 (io), 14 PC3/RTS2_/T1C4_/T2C3N_/T2C1N_/C1N0/C2N1/C3N1/A13 (io), 15 PA22/T2C2N/CK2_/C2N0 (io), 16 PA23/T2C3N/CK2_/C1N1 (io), 17 PA0/T2C1/CTS2/C1P1/A0 (io), 18 PA1/RTS2/T2C2/C1O/CTS2_/O1N2/O2N2/A1 (io), 19 PA2/TX2/T2C3/O2O1/RTS2_/T2ET_/C3N0/A2 (io), 20 GND (power), 21 VDD (power), 22 PC20/RST/A14 (io), 23 PA3/T2C4/O1O0/T3C1_/RX2/CTS3_/A3 (io), 24 PC4/CS_/T1BK_/T2ET_ (io), 25 PC5/SCK_/T1C1N_ (io), 26 PA4/CS/CK2/O2O0/RTS3_/T3C2_/A4 (io), 27 PA5/SCK/TX4_/CTS4_/O2N0/A5 (io), 28 PA6/MISO/T3C1/CK4_/RTS4_/T1BK_/O1N0/A6 (io), 29 PA7/MOSI/T3C2/T1C1N_/TX1_/CTS4_/O2P0/A7 (io), 30 PC6/T1C2N_ (io), 31 PC7/T1C3N_ (io), 32 PC8/T1BK_ (io), 33 PC9/T1C1N_ (io), 34 PC10/T1C2N_ (io), 35 PC11/T1C3N_ (io), 36 PB0/TX4/T1C2N_/O1P0/A8 (io), 37 PB1/T1C3N_/RX4/O2N1/A9 (io), 38 PB2/CK4/C2O/RX1_ (io), 39 PB3/TX3/C3O/T2C3_/T2C3N_/O2P1 (io), 40 PB4/T2C4_/T3C1_/T2BK_/RX3/O1P2 (io), 41 VDD (power), 42 GND (power), 43 PB5/CK3/O1O1/CK1_/T3C2_/T1BK (io), 44 PB6/T1C1N/CTS3/O1N1 (io), 45 PB7/T1C2N/RTS3_/O2P2 (io), 46 PB8/T1C3N/CK3_/CK4_/O1P1 (io), 47 PB16/TX3_/T2C1_ (io), 48 PB17/T2C2_/RX3_ (io), 49 PB18/T2C3_/CTS3_ (io), 50 GND (power), 51 PB19/RTS3_/T2C4_ (io), 52 PB9/CK1/T1C1/MCO/TX4_ (io), 53 PB10/TX1/T1C2 (io), 54 PB11/T1C3/T2C1N_/RX1 (io), 55 PC16/UDM/T1C4/TX4_/SCL_/SDA_/RX4_/CTS1 (io), 56 PC17/UDP/RTS1/TX4_/SDA_/SCL_/RX4_/T1ET (io), 57 PC18/DIO/TX3_/T2C1N_/T3C2_/SDA_/SCL_/T1ET_ (io), 58 PB12/CK1_/T1C4_/T2C2N_ (io), 59 GND (power), 60 VDD (power), 61 PC19/DCK/T2C1_/T3C1_/SCL_/SDA_/RX3_/RX4_/C1P0 (io), 62 PB13/TX4_ (io), 63 PB14/RX3_ (io), 64 PB20/CK2_ (io), 65 PB21/T2C1_/CS_/RTS4_ (io), 66 PB22/CK3_ (io), 67 PB23/T1C4_ (io), 68 PB15/T2C2_/SCK_/CTS4 (io), 69 PC12/T1C1_ (io), 70 PC13/T1C2_ (io), 71 PC14/CC1/T1C3_/T2C2_ (io), 72 PC15/CC2/T2C3_/T1ET_ (io), 73 PA8/MISO_/RTS4/RTS1_/CK4_ (io), 74 PA9/MOSI_/MISO_/RX4_/CTS1_/T2BK_ (io), 75 PA10/SCL/TX1_/MOSI_/RX4_ (io), 76 PA11/SDA/SCK_/RX1_/C2P1 (io), 77 PA12/CS_/T2C2_/T2C1N_/C2P0 (io), 78 PA13/SCL_/RTS4_/CTS1_/T2C3_/T2C2N_/C3P0 (io), 79 PA14/SDA_/RTS1_/T2C3N_/CTS4_/C3P1 (io), 80 VDD (power)

## CH645F
designator U?
RISC-V MCU, with 4*USB hub, 4*USB host, 4*I2C, 2*PD, SDIO, ethernet
footprint QFN32_4X4 (Footprint not found)
pins: 0 GND (power), 1 MDITP (io), 2 MDITN (io), 3 VDD33 (power), 4 MDIRP (io), 5 MDIRN (io), 6 DM0 (io), 7 DP0 (io), 8 XO (out), 9 XI (in), 10 AVDDK (power), 11 DM1 (io), 12 DP1 (io), 13 DM2 (io), 14 DP2 (io), 15 VDD33 (power), 16 PA7/RST_0 (io), 17 PA3/CC4/RX1/TX1_2 (io), 18 PA2/CC3/TX1/RX1_2 (io), 19 PB5/RX1_/TX1_3/SD3/SCL4_ (io), 20 PB4/TX1_/RX1_3/SD2/SDA4_ (io), 21 PB3/MOSI_/SD1/SCL3_ (io), 22 PB2/MISO_/SD0/SDA3_ (io), 23 PB1/SCK_/SDCK/SCL2_ (io), 24 VSDIO (power), 25 PB0/SCS_/SDCMD/SDA2_ (io), 26 PA0/CC1/DIO/TX2_/SDA1 (io), 27 PA1/CC2/DCK/RX2_/SCL1 (io), 28 DVDDK (power), 29 DM4 (io), 30 DP4 (io), 31 DM3 (io), 32 DP3 (io)
2 alternate drawings of the same symbol
text: USB/ETH: VDD33; Blue-IO: VDD33&5VT; Green-IO: VSDIO

## CH645W
designator U?
RISC-V MCU for KVM, with 4*USB hub, 4*USB host, 5*I2C, 2*PD, SDIO, ethernet
footprint QFN68_8X8 (Footprint not found)
pins: 0 GND (power), 1 MDITP (io), 2 MDITN (io), 3 VDD33 (power), 4 MDIRP (io), 5 MDIRN (io), 6 GND (power), 7 DM6 (io), 8 DP6 (io), 9 DM7 (io), 10 DP7 (io), 11 VDD33 (power), 12 DM0 (io), 13 DP0 (io), 14 GND (power), 15 XO (out), 16 XI (in), 17 AVDDK (power), 18 DM1 (io), 19 DP1 (io), 20 DM2 (io), 21 DP2 (io), 22 GND (power), 23 VDD33 (power), 24 DM3 (io), 25 DP3 (io), 26 DM4 (io), 27 DP4 (io), 28 DM5 (io), 29 DP5 (io), 30 VDD33 (power), 31 PA12/RTS1/CTS1_ (io), 32 PA11/RX2/MOSI2_/SDA1_/RST_1 (io), 33 PA10/TX2/MISO2_/SCL1_ (io), 34 PA9/CTS2/SCS2_ (io), 35 PB10/SDA3 (io), 36 PB9/SCS_/SCL2 (io), 37 PB8/MISO_/SDA2 (io), 38 PB7/MOSI_/SDA1_3/SCL5_ (io), 39 PB6/SCK_/SCL1_3/SDA5_ (io), 40 VDDIO (power), 41 PA8/RTS2/SCK2_/ETHLED2 (io), 42 PA7/SCK/SDA1_2/ETHLED1/RST_0 (io), 43 PA6/TX2_2/SCS/ETHLED0 (io), 44 PA5/MOSI/SD7 (io), 45 PA4/RX2_2/MISO/SD6 (io), 46 PA3/CC4/RX1/TX1_2/SCK_/SD5 (io), 47 PA2/CC3/TX1/RX1_2/SCS_/SD4 (io), 48 PB5/RX1_/TX1_3/SD3/SCL4_ (io), 49 PB4/TX1_/RX1_3/SD2/SDA4_ (io), 50 PB3/MOSI_/SD1/SCL3_ (io), 51 B2/MISO_/SD0/SDA3_ (io), 52 PB1/SCK_/SDCK/SCL2_ (io), 53 GND (power), 54 VSDIO (power), 55 PB0/SCS_/SDCMD/SDA2_ (io), 56 PA0/CC1/DIO/TX2_/SDA1 (io), 57 PA1/CC2/DCK/RX2_/SCL1 (io), 58 PA14/RST_2 (io), 59 PA13/RTS1_/CTS1/SCL1_2 (io), 60 DVDDK (power), 61 GND (power), 62 PA15 (io), 63 VDDIO (power), 64 PB11/SCL3 (io), 65 PB12/RTS2_/SCK2/SDA4 (io), 66 PB13/CTS2_/SCS2/SCL4 (io), 67 PB14/TX2_3/MISO2/SDA5 (io), 68 PB15/RX2_3/MOSI2/SCL5 (io)
2 alternate drawings of the same symbol
text: USB/ETH: VDD33; Black-IO: VDDIO; Blue-IO: VDDIO&5VT; Green-IO: VSDIO

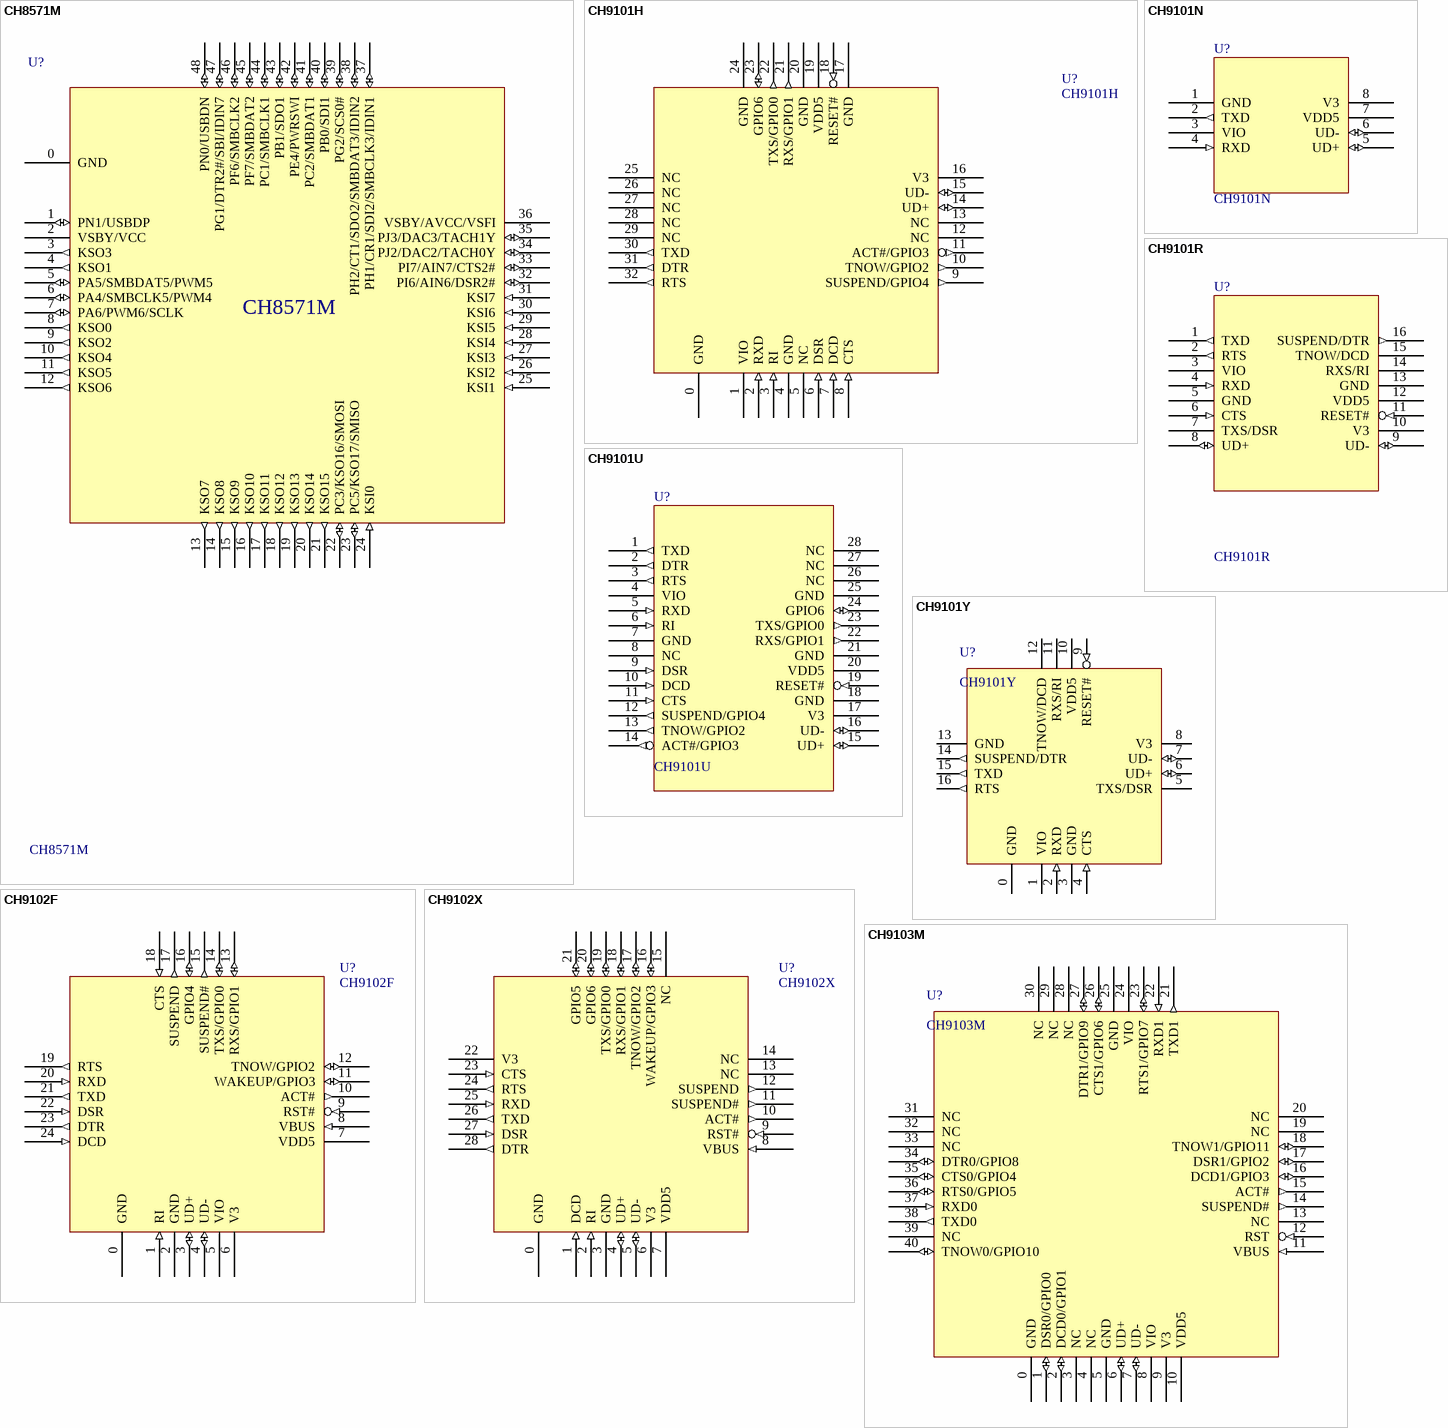
[diagram p63: symbols CH8571M to CH9103M]

## CH8571M
designator U?
RISC-V embedded controller for mobile platforms
footprint QFN48_7X7 (Footprint not found)
pins: 0 GND (power), 1 PN1/USBDP (io), 2 VSBY/VCC (power), 3 KSO3 (out), 4 KSO1 (out), 5 PA5/SMBDAT5/PWM5 (io), 6 PA4/SMBCLK5/PWM4 (io), 7 PA6/PWM6/SCLK (io), 8 KSO0 (out), 9 KSO2 (out), 10 KSO4 (out), 11 KSO5 (out), 12 KSO6 (out), 13 KSO7 (out), 14 KSO8 (out), 15 KSO9 (out), 16 KSO10 (out), 17 KSO11 (out), 18 KSO12 (out), 19 KSO13 (out), 20 KSO14 (out), 21 KSO15 (out), 22 PC3/KSO16/SMOSI (io), 23 PC5/KSO17/SMISO (io), 24 KSI0 (in), 25 KSI1 (in), 26 KSI2 (in), 27 KSI3 (in), 28 KSI4 (in), 29 KSI5 (in), 30 KSI6 (in), 31 KSI7 (in), 32 PI6/AIN6/DSR2# (io), 33 PI7/AIN7/CTS2# (io), 34 PJ2/DAC2/TACH0Y (io), 35 PJ3/DAC3/TACH1Y (io), 36 VSBY/AVCC/VSFI (power), 37 PH1/CR1/SDI2/SMBCLK3/IDIN1 (io), 38 PH2/CT1/SDO2/SMBDAT3/IDIN2 (io), 39 PG2/SCS0# (io), 40 PB0/SDI1 (io), 41 PC2/SMBDAT1 (io), 42 PE4/PWRSWI (io), 43 PB1/SDO1 (io), 44 PC1/SMBCLK1 (io), 45 PF7/SMBDAT2 (io), 46 PF6/SMBCLK2 (io), 47 PG1/DTR2#/SBI/IDIN7 (io), 48 PN0/USBDN (io)

## CH9101H
designator U?
USB to high speed TTL Serial / UART
footprint QFN32_5X5
pins: 0 GND (power), 1 VIO (power), 2 RXD (in), 3 RI (in), 4 GND (power), 5 NC, 6 DSR (in), 7 DCD (in), 8 CTS (in), 9 SUSPEND/GPIO4 (out), 10 TNOW/GPIO2 (out), 11 ACT#/GPIO3 (out), 12 NC, 13 NC, 14 UD+ (io), 15 UD- (io), 16 V3 (power), 17 GND (power), 18 RESET# (in), 19 VDD5 (power), 20 GND (power), 21 RXS/GPIO1 (out), 22 TXS/GPIO0 (out), 23 GPIO6 (io), 24 GND (power), 25 NC, 26 NC, 27 NC, 28 NC, 29 NC, 30 TXD (out), 31 DTR (out), 32 RTS (out)

## CH9101N
designator U?
USB to high speed TTL Serial / UART
footprint SOP8
pins: 1 GND (power), 2 TXD (out), 3 VIO (power), 4 RXD (in), 5 UD+ (io), 6 UD- (io), 7 VDD5 (power), 8 V3 (power)

## CH9101R
designator U?
USB to high speed TTL Serial / UART
footprint QSOP16
pins: 1 TXD (out), 2 RTS (out), 3 VIO (power), 4 RXD (in), 5 GND (power), 6 CTS (in), 7 TXS/DSR, 8 UD+ (io), 9 UD- (io), 10 V3 (power), 11 RESET# (in), 12 VDD5 (power), 13 GND (power), 14 RXS/RI, 15 TNOW/DCD, 16 SUSPEND/DTR (out)

## CH9101U
designator U?
USB to high speed TTL Serial / UART
footprint SSOP28 (Footprint not found)
pins: 1 TXD (out), 2 DTR (out), 3 RTS (out), 4 VIO (power), 5 RXD (in), 6 RI (in), 7 GND (power), 8 NC, 9 DSR (in), 10 DCD (in), 11 CTS (in), 12 SUSPEND/GPIO4 (out), 13 TNOW/GPIO2 (out), 14 ACT#/GPIO3 (out), 15 UD+ (io), 16 UD- (io), 17 V3 (power), 18 GND (power), 19 RESET# (in), 20 VDD5 (power), 21 GND (power), 22 RXS/GPIO1 (out), 23 TXS/GPIO0 (out), 24 GPIO6 (io), 25 GND (power), 26 NC, 27 NC, 28 NC

## CH9101Y
designator U?
USB to high speed TTL Serial / UART
footprint QFN16_4X4
pins: 0 GND (power), 1 VIO (power), 2 RXD (in), 3 GND (power), 4 CTS (in), 5 TXS/DSR, 6 UD+ (io), 7 UD- (io), 8 V3 (power), 9 RESET# (in), 10 VDD5 (power), 11 RXS/RI, 12 TNOW/DCD, 13 GND (power), 14 SUSPEND/DTR (out), 15 TXD (out), 16 RTS (out)

## CH9102F
designator U?
USB to high speed TTL Serial / UART
footprint QFN24_4X4
pins: 0 GND (power), 1 RI (in), 2 GND (power), 3 UD+ (io), 4 UD- (io), 5 VIO (power), 6 V3 (power), 7 VDD5 (power), 8 VBUS (in), 9 RST# (in), 10 ACT# (out), 11 WAKEUP/GPIO3 (io), 12 TNOW/GPIO2 (io), 13 RXS/GPIO1 (io), 14 TXS/GPIO0 (io), 15 SUSPEND# (out), 16 GPIO4 (io), 17 SUSPEND (out), 18 CTS (in), 19 RTS (out), 20 RXD (in), 21 TXD (out), 22 DSR (in), 23 DTR (out), 24 DCD (in)

## CH9102X
designator U?
USB to high speed TTL Serial / UART
footprint QFN28_5X5
pins: 0 GND (power), 1 DCD (in), 2 RI (in), 3 GND (power), 4 UD+ (io), 5 UD- (io), 6 V3 (power), 7 VDD5 (power), 8 VBUS (in), 9 RST# (in), 10 ACT# (out), 11 SUSPEND# (out), 12 SUSPEND (out), 13 NC, 14 NC, 15 NC, 16 WAKEUP/GPIO3 (io), 17 TNOW/GPIO2 (io), 18 RXS/GPIO1 (io), 19 TXS/GPIO0 (io), 20 GPIO6 (io), 21 GPIO5 (io), 22 V3 (power), 23 CTS (in), 24 RTS (out), 25 RXD (in), 26 TXD (out), 27 DSR (in), 28 DTR (out)

## CH9103M
designator U?
USB to dual enhanced TTL Serial / 2*UART
footprint QFN40_6X6
pins: 0 GND (power), 1 DSR0/GPIO0 (io), 2 DCD0/GPIO1 (io), 3 NC, 4 NC, 5 GND (power), 6 UD+ (io), 7 UD- (io), 8 VIO (power), 9 V3 (power), 10 VDD5 (power), 11 VBUS (in), 12 RST (in), 13 NC, 14 SUSPEND# (out), 15 ACT# (out), 16 DCD1/GPIO3 (io), 17 DSR1/GPIO2 (io), 18 TNOW1/GPIO11 (io), 19 NC, 20 NC, 21 TXD1 (out), 22 RXD1 (in), 23 RTS1/GPIO7 (io), 24 VIO (power), 25 GND (power), 26 CTS1/GPIO6 (io), 27 DTR1/GPIO9 (io), 28 NC, 29 NC, 30 NC, 31 NC, 32 NC, 33 NC, 34 DTR0/GPIO8 (io), 35 CTS0/GPIO4 (io), 36 RTS0/GPIO5 (io), 37 RXD0 (in), 38 TXD0 (out), 39 NC, 40 TNOW0/GPIO10 (io)

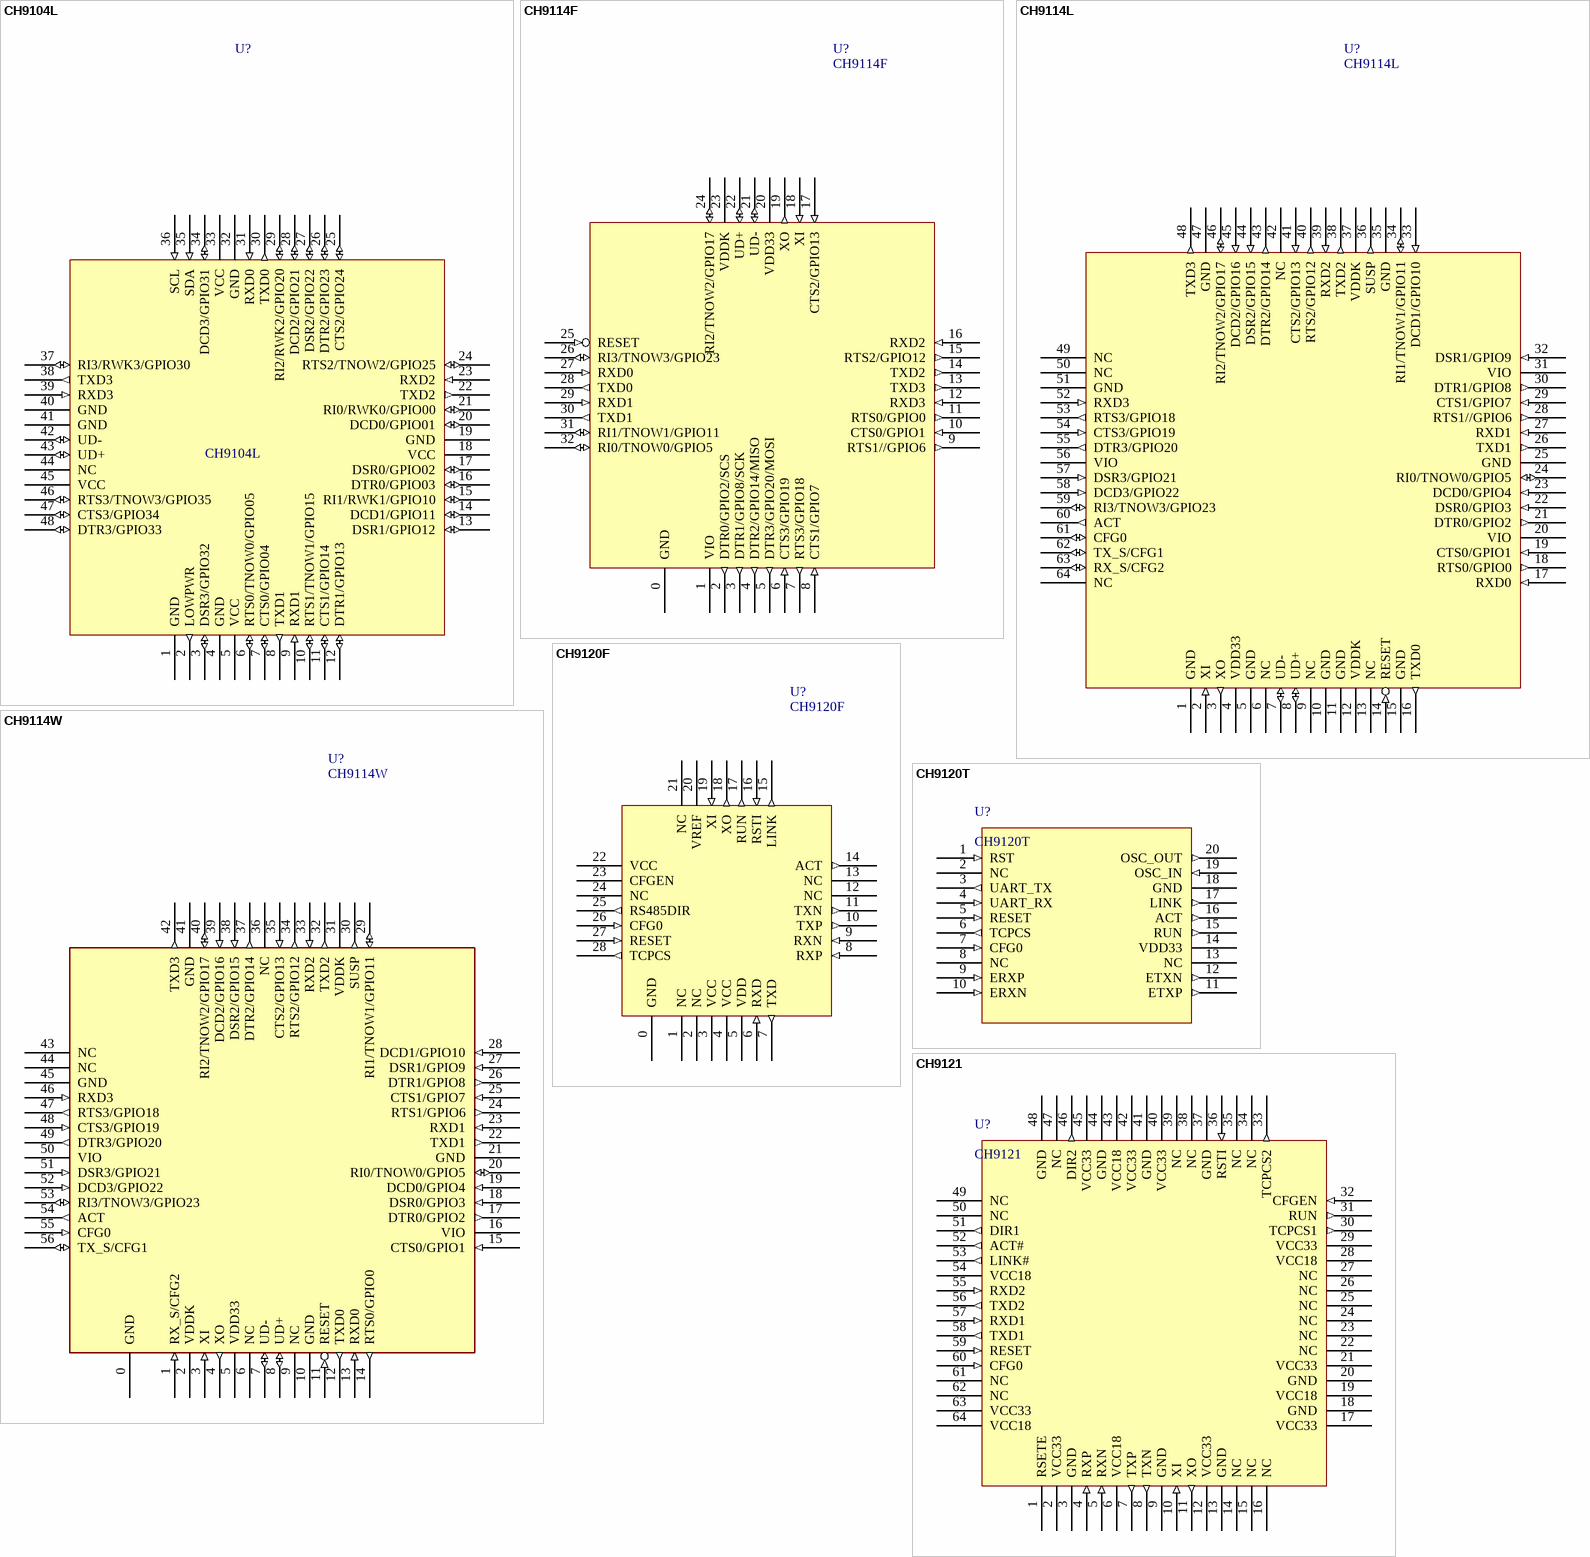
[diagram p64: symbols CH9104L to CH9121]

## CH9104L
designator U?
USB to quad serial ports / 4*UART
footprint TQFP48_7X7
pins: 1 GND (power), 2 LOWPWR (out), 3 DSR3/GPIO32 (io), 4 GND (power), 5 VCC (power), 6 RTS0/TNOW0/GPIO05 (io), 7 CTS0/GPIO04 (io), 8 TXD1 (out), 9 RXD1 (in), 10 RTS1/TNOW1/GPIO15 (io), 11 CTS1/GPIO14 (io), 12 DTR1/GPIO13 (io), 13 DSR1/GPIO12 (io), 14 DCD1/GPIO11 (io), 15 RI1/RWK1/GPIO10 (io), 16 DTR0/GPIO03 (io), 17 DSR0/GPIO02 (io), 18 VCC (power), 19 GND (power), 20 DCD0/GPIO01 (io), 21 RI0/RWK0/GPIO00 (io), 22 TXD2 (out), 23 RXD2 (in), 24 RTS2/TNOW2/GPIO25 (io), 25 CTS2/GPIO24 (io), 26 DTR2/GPIO23 (io), 27 DSR2/GPIO22 (io), 28 DCD2/GPIO21 (io), 29 RI2/RWK2/GPIO20 (io), 30 TXD0 (out), 31 RXD0 (in), 32 GND (power), 33 VCC (power), 34 DCD3/GPIO31 (io), 35 SDA (in), 36 SCL (in), 37 RI3/RWK3/GPIO30 (io), 38 TXD3 (out), 39 RXD3 (in), 40 GND (power), 41 GND (power), 42 UD- (io), 43 UD+ (io), 44 NC, 45 VCC (power), 46 RTS3/TNOW3/GPIO35 (io), 47 CTS3/GPIO34 (io), 48 DTR3/GPIO33 (io)

## CH9114F
designator U?
high-speed USB to quad UART & SPI
footprint QFN32_4X4
pins: 0 GND (power), 1 VIO (power), 2 DTR0/GPIO2/SCS (out), 3 DTR1/GPIO8/SCK (out), 4 DTR2/GPIO14/MISO (out), 5 DTR3/GPIO20/MOSI (out), 6 CTS3/GPIO19 (in), 7 RTS3/GPIO18 (out), 8 CTS1/GPIO7 (in), 9 RTS1//GPIO6 (out), 10 CTS0/GPIO1 (in), 11 RTS0/GPIO0 (out), 12 RXD3 (in), 13 TXD3 (out), 14 TXD2 (out), 15 RTS2/GPIO12 (out), 16 RXD2 (in), 17 CTS2/GPIO13 (in), 18 XI (in), 19 XO (out), 20 VDD33 (power), 21 UD- (io), 22 UD+ (io), 23 VDDK (power), 24 RI2/TNOW2/GPIO17 (io), 25 RESET (in), 26 RI3/TNOW3/GPIO23 (io), 27 RXD0 (in), 28 TXD0 (out), 29 RXD1 (in), 30 TXD1 (out), 31 RI1/TNOW1/GPIO11 (io), 32 RI0/TNOW0/GPIO5 (io)
2 alternate drawings of the same symbol

## CH9114L
designator U?
high-speed USB to quad UART & dual SPI
footprint LQFP64M_10X10
pins: 1 GND (power), 2 XI (in), 3 XO (out), 4 VDD33 (power), 5 GND (power), 6 NC, 7 UD- (io), 8 UD+ (io), 9 NC, 10 GND (power), 11 GND (power), 12 VDDK (power), 13 NC, 14 RESET (in), 15 GND (power), 16 TXD0 (out), 17 RXD0 (in), 18 RTS0/GPIO0 (out), 19 CTS0/GPIO1 (in), 20 VIO (power), 21 DTR0/GPIO2 (out), 22 DSR0/GPIO3 (in), 23 DCD0/GPIO4 (in), 24 RI0/TNOW0/GPIO5 (io), 25 GND (power), 26 TXD1 (out), 27 RXD1 (in), 28 RTS1//GPIO6 (out), 29 CTS1/GPIO7 (in), 30 DTR1/GPIO8 (out), 31 VIO (power), 32 DSR1/GPIO9 (in), 33 DCD1/GPIO10 (in), 34 RI1/TNOW1/GPIO11 (io), 35 GND (power), 36 SUSP (out), 37 VDDK (power), 38 TXD2 (out), 39 RXD2 (in), 40 RTS2/GPIO12 (out), 41 CTS2/GPIO13 (in), 42 NC, 43 DTR2/GPIO14 (out), 44 DSR2/GPIO15 (in), 45 DCD2/GPIO16 (in), 46 RI2/TNOW2/GPIO17 (io), 47 GND (power), 48 TXD3 (out), 49 NC, 50 NC, 51 GND (power), 52 RXD3 (in), 53 RTS3/GPIO18 (out), 54 CTS3/GPIO19 (in), 55 DTR3/GPIO20 (out), 56 VIO (power), 57 DSR3/GPIO21 (in), 58 DCD3/GPIO22 (in), 59 RI3/TNOW3/GPIO23 (io), 60 ACT (out), 61 CFG0 (io), 62 TX_S/CFG1 (io), 63 RX_S/CFG2 (io), 64 NC
2 alternate drawings of the same symbol

## CH9114W
designator U?
high-speed USB to quad UART & dual SPI
footprint QFN56_8X8
pins: 0 GND (power), 1 RX_S/CFG2 (in), 2 VDDK (power), 3 XI (in), 4 XO (out), 5 VDD33 (power), 6 NC, 7 UD- (io), 8 UD+ (io), 9 NC, 10 GND (power), 11 RESET (in), 12 TXD0 (out), 13 RXD0 (in), 14 RTS0/GPIO0 (out), 15 CTS0/GPIO1 (in), 16 VIO (power), 17 DTR0/GPIO2 (out), 18 DSR0/GPIO3 (in), 19 DCD0/GPIO4 (in), 20 RI0/TNOW0/GPIO5 (io), 21 GND (power), 22 TXD1 (out), 23 RXD1 (in), 24 RTS1/GPIO6 (out), 25 CTS1/GPIO7 (in), 26 DTR1/GPIO8 (out), 27 DSR1/GPIO9 (in), 28 DCD1/GPIO10 (in), 29 RI1/TNOW1/GPIO11 (io), 30 SUSP (out), 31 VDDK (power), 32 TXD2 (out), 33 RXD2 (in), 34 RTS2/GPIO12 (out), 35 CTS2/GPIO13 (in), 36 NC, 37 DTR2/GPIO14 (out), 38 DSR2/GPIO15 (in), 39 DCD2/GPIO16 (in), 40 RI2/TNOW2/GPIO17 (io), 41 GND (power), 42 TXD3 (out), 43 NC, 44 NC, 45 GND (power), 46 RXD3 (in), 47 RTS3/GPIO18 (out), 48 CTS3/GPIO19 (in), 49 DTR3/GPIO20 (out), 50 VIO (power), 51 DSR3/GPIO21 (in), 52 DCD3/GPIO22 (in), 53 RI3/TNOW3/GPIO23 (io), 54 ACT (out), 55 CFG0 (in), 56 TX_S/CFG1 (io)
2 alternate drawings of the same symbol

## CH9120F
designator U?
TTL serail / UART to 10Mbps ethernet
footprint QFN28_4X4
pins: 0 GND (power), 1 NC, 2 NC, 3 VCC (power), 4 VCC (power), 5 VDD (power), 6 RXD (in), 7 TXD (out), 8 RXP (in), 9 RXN (in), 10 TXP (out), 11 TXN (out), 12 NC, 13 NC, 14 ACT (out), 15 LINK (out), 16 RSTI (in), 17 RUN (out), 18 XO (out), 19 XI (in), 20 VREF (power), 21 NC, 22 VCC (power), 23 CFGEN, 24 NC, 25 RS485DIR (out), 26 CFG0 (in), 27 RESET (in), 28 TCPCS (out)

## CH9120T
designator U?
TTL serail / UART to 10Mbps ethernet
footprint TSSOP20
pins: 1 RST (in), 2 NC, 3 UART_TX (out), 4 UART_RX (in), 5 RESET (in), 6 TCPCS (out), 7 CFG0 (in), 8 NC, 9 ERXP (in), 10 ERXN (in), 11 ETXP (out), 12 ETXN (out), 13 NC, 14 VDD33 (power), 15 RUN (out), 16 ACT (out), 17 LINK (out), 18 GND (power), 19 OSC_IN (in), 20 OSC_OUT (out)

## CH9121
designator U?
dual TTL serail / 2*UART to 10Mbps/100Mbps Ethernet
footprint LQFP64M_10X10
pins: 1 RSETE, 2 VCC33 (power), 3 GND, 4 RXP (in), 5 RXN (in), 6 VCC18 (power), 7 TXP (out), 8 TXN (out), 9 GND (power), 10 XI (in), 11 XO (out), 12 VCC33 (power), 13 GND (power), 14 NC, 15 NC, 16 NC, 17 VCC33 (power), 18 GND (power), 19 VCC18 (power), 20 GND (power), 21 VCC33 (power), 22 NC, 23 NC, 24 NC, 25 NC, 26 NC, 27 NC, 28 VCC18 (power), 29 VCC33 (power), 30 TCPCS1 (out), 31 RUN (out), 32 CFGEN (in), 33 TCPCS2 (out), 34 NC, 35 NC, 36 RSTI (in), 37 GND (power), 38 NC, 39 NC, 40 VCC33 (power), 41 GND (power), 42 VCC33 (power), 43 VCC18 (power), 44 GND (power), 45 VCC33 (power), 46 DIR2 (out), 47 NC, 48 GND (power), 49 NC, 50 NC, 51 DIR1 (out), 52 ACT# (out), 53 LINK# (out), 54 VCC18 (power), 55 RXD2 (in), 56 TXD2 (out), 57 RXD1 (in), 58 TXD1 (out), 59 RESET (in), 60 CFG0 (in), 61 NC, 62 NC, 63 VCC33 (power), 64 VCC18 (power)

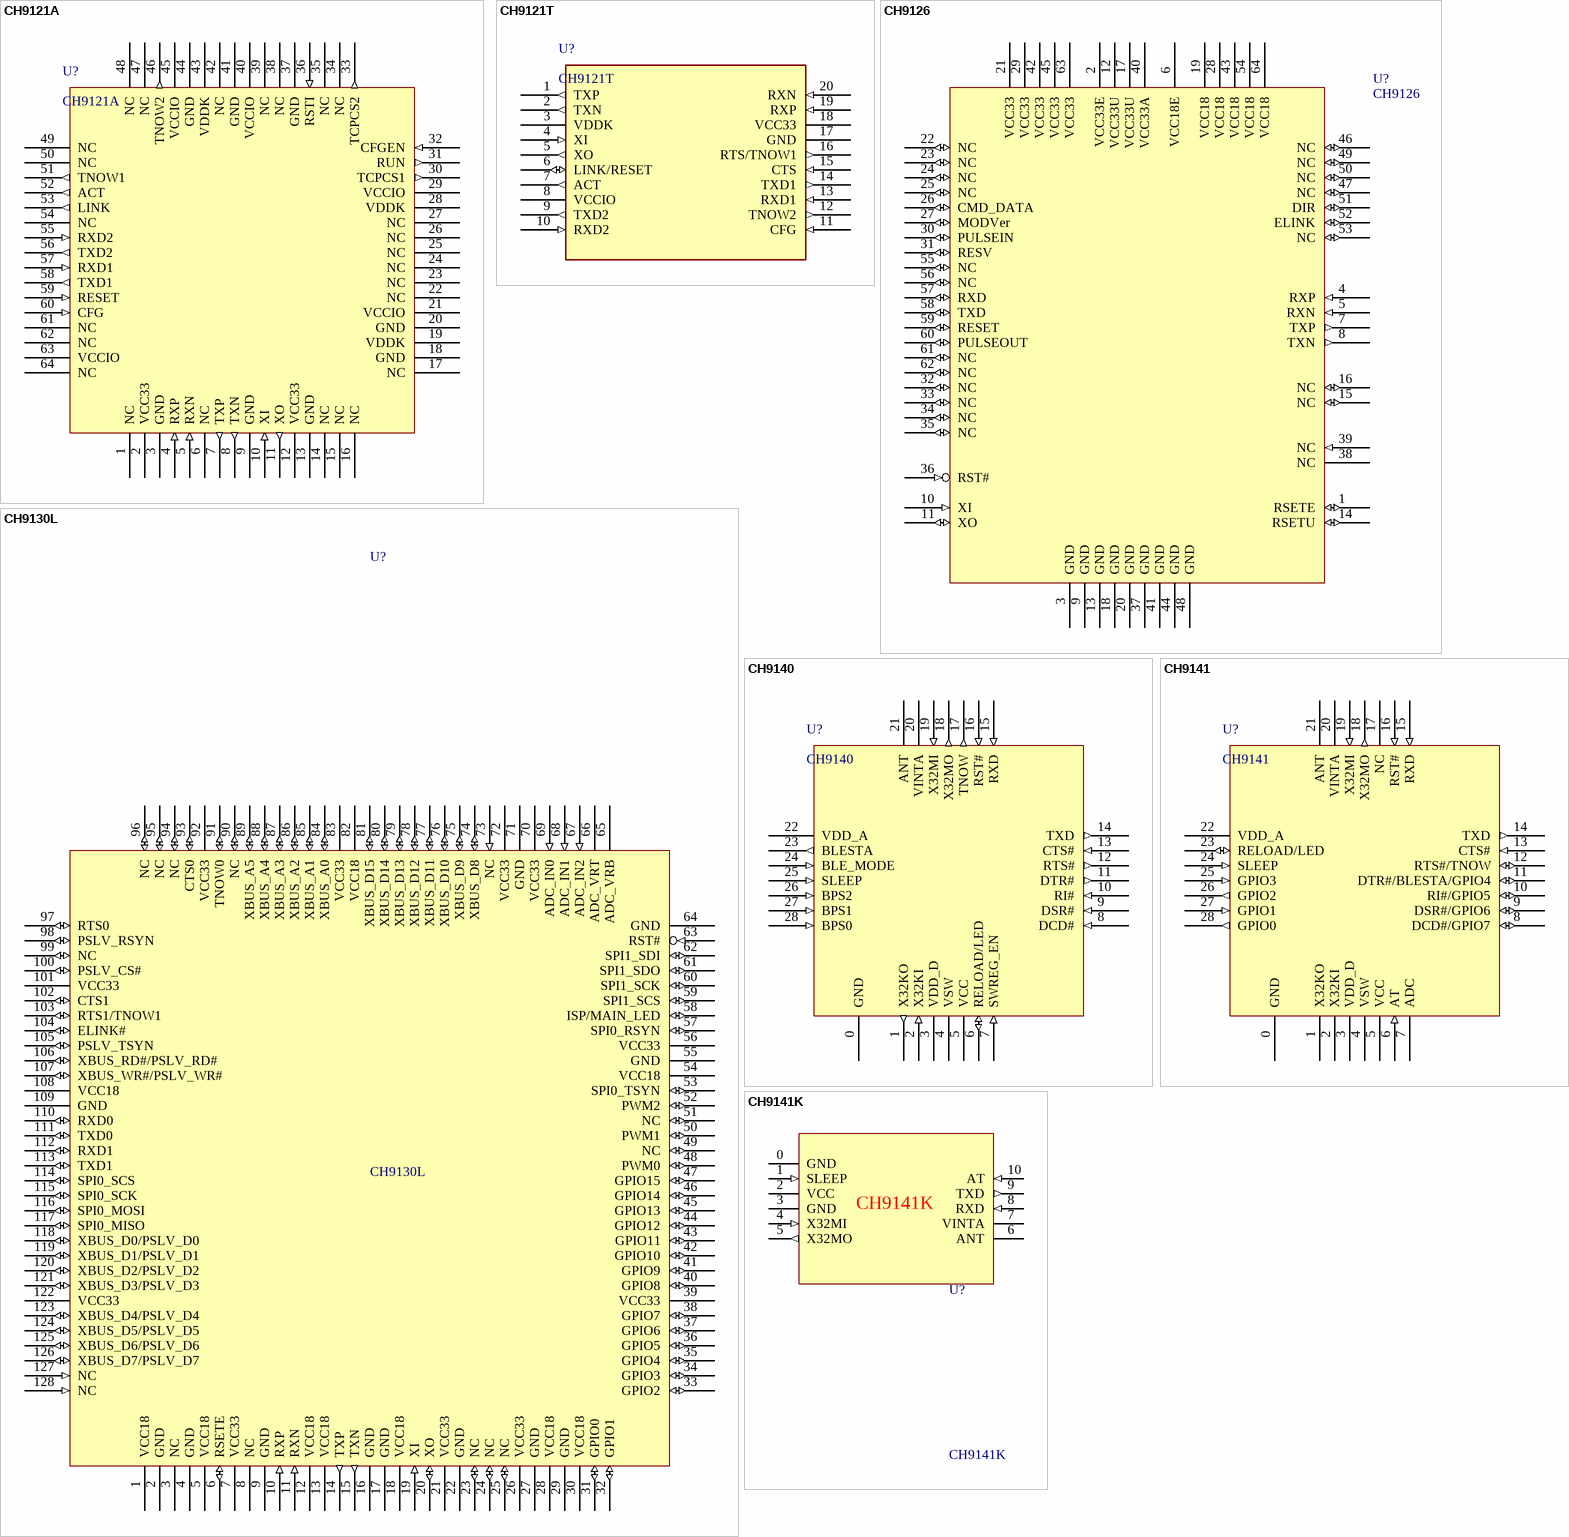
[diagram p65: symbols CH9121A to CH9141K]

## CH9121A
designator U?
dual TTL serail / 2*UART to 10Mbps/100Mbps Ethernet
footprint LQFP64M_10X10
pins: 1 NC, 2 VCC33 (power), 3 GND, 4 RXP (in), 5 RXN (in), 6 NC (power), 7 TXP (out), 8 TXN (out), 9 GND (power), 10 XI (in), 11 XO (out), 12 VCC33 (power), 13 GND (power), 14 NC, 15 NC, 16 NC, 17 NC (power), 18 GND (power), 19 VDDK (power), 20 GND (power), 21 VCCIO (power), 22 NC, 23 NC, 24 NC, 25 NC, 26 NC, 27 NC, 28 VDDK (power), 29 VCCIO (power), 30 TCPCS1 (out), 31 RUN (out), 32 CFGEN (in), 33 TCPCS2 (out), 34 NC, 35 NC, 36 RSTI (in), 37 GND (power), 38 NC, 39 NC, 40 VCCIO (power), 41 GND (power), 42 NC (power), 43 VDDK (power), 44 GND (power), 45 VCCIO (power), 46 TNOW2 (out), 47 NC, 48 NC (power), 49 NC, 50 NC, 51 TNOW1 (out), 52 ACT (out), 53 LINK (out), 54 NC (power), 55 RXD2 (in), 56 TXD2 (out), 57 RXD1 (in), 58 TXD1 (out), 59 RESET (in), 60 CFG (in), 61 NC, 62 NC, 63 VCCIO (power), 64 NC (power)

## CH9121T
designator U?
Network and UART Transparent Transmission on 100M Ethernet
footprint TSSOP20
pins: 1 TXP (out), 2 TXN (out), 3 VDDK, 4 XI (in), 5 XO (out), 6 LINK/RESET (io), 7 ACT (out), 8 VCCIO, 9 TXD2 (out), 10 RXD2 (in), 11 CFG (in), 12 TNOW2 (out), 13 RXD1 (in), 14 TXD1 (out), 15 CTS (in), 16 RTS/TNOW1 (out), 17 GND, 18 VCC33, 19 RXP (in), 20 RXN (in)

## CH9126
designator U?
SNTP via 100Mbps Ethernet
footprint LQFP64M_10X10
pins: 1 RSETE (io), 2 VCC33E (power), 3 GND (power), 4 RXP (in), 5 RXN (in), 6 VCC18E (power), 7 TXP (out), 8 TXN (out), 9 GND (power), 10 XI (in), 11 XO (io), 12 VCC33U (power), 13 GND (power), 14 RSETU (io), 15 NC (io), 16 NC (io), 17 VCC33U (power), 18 GND (power), 19 VCC18 (power), 20 GND (power), 21 VCC33 (power), 22 NC (io), 23 NC (io), 24 NC (io), 25 NC (io), 26 CMD_DATA (io), 27 MODVer (io), 28 VCC18 (power), 29 VCC33 (power), 30 PULSEIN (io), 31 RESV (io), 32 NC (io), 33 NC (io), 34 NC (io), 35 NC (io), 36 RST# (in), 37 GND (power), 38 NC (power), 39 NC (in), 40 VCC33A (power), 41 GND (power), 42 VCC33 (power), 43 VCC18 (power), 44 GND (power), 45 VCC33 (power), 46 NC (io), 47 NC (io), 48 GND (power), 49 NC (io), 50 NC (io), 51 DIR (io), 52 ELINK (io), 53 NC (io), 54 VCC18 (power), 55 NC (io), 56 NC (io), 57 RXD (io), 58 TXD (io), 59 RESET (io), 60 PULSEOUT (io), 61 NC (io), 62 NC (io), 63 VCC33 (power), 64 VCC18 (power)
2 alternate drawings of the same symbol

## CH9130L
designator U?
remote UART/SPI/GPIO/ADC/PWM/parallel via 100Mbps Ethernet
footprint LQFP128
pins: 1 VCC18 (power), 2 GND (power), 3 NC, 4 GND (power), 5 VCC18 (power), 6 RSETE (io), 7 VCC33 (power), 8 NC, 9 GND (power), 10 RXP (in), 11 RXN (in), 12 VCC18 (power), 13 VCC18 (power), 14 TXP (out), 15 TXN (out), 16 GND (power), 17 GND (power), 18 VCC18 (power), 19 XI (in), 20 XO (io), 21 VCC33 (power), 22 GND (power), 23 NC (io), 24 NC (io), 25 NC (io), 26 VCC33 (power), 27 GND (power), 28 VCC18 (power), 29 GND (power), 30 VCC18 (power), 31 GPIO0 (io), 32 GPIO1 (io), 33 GPIO2 (io), 34 GPIO3 (io), 35 GPIO4 (io), 36 GPIO5 (io), 37 GPIO6 (io), 38 GPIO7 (io), 39 VCC33 (power), 40 GPIO8 (io), 41 GPIO9 (io), 42 GPIO10 (io), 43 GPIO11 (io), 44 GPIO12 (io), 45 GPIO13 (io), 46 GPIO14 (io), 47 GPIO15 (io), 48 PWM0 (io), 49 NC (io), 50 PWM1 (io), 51 NC (io), 52 PWM2 (io), 53 SPI0_TSYN (io), 54 VCC18 (power), 55 GND (power), 56 VCC33 (power), 57 SPI0_RSYN (io), 58 ISP/MAIN_LED (io), 59 SPI1_SCS (io), 60 SPI1_SCK (io), 61 SPI1_SDO (io), 62 SPI1_SDI (io), 63 RST# (in), 64 GND (power), 65 ADC_VRB (power), 66 ADC_VRT (power), 67 ADC_IN2 (in), 68 ADC_IN1 (in), 69 ADC_IN0 (in), 70 VCC33 (power), 71 GND (power), 72 VCC33 (power), 73 NC (in), 74 XBUS_D8 (io), 75 XBUS_D9 (io), 76 XBUS_D10 (io), 77 XBUS_D11 (io), 78 XBUS_D12 (io), 79 XBUS_D13 (io), 80 XBUS_D14 (io), 81 XBUS_D15 (io), 82 VCC18 (power), 83 VCC33 (power), 84 XBUS_A0 (io), 85 XBUS_A1 (io), 86 XBUS_A2 (io), 87 XBUS_A3 (io), 88 XBUS_A4 (io), 89 XBUS_A5 (io), 90 NC (io), 91 TNOW0 (io), 92 VCC33 (power), 93 CTS0 (io), 94 NC (io), 95 NC (io), 96 NC (io), 97 RTS0 (io), 98 PSLV_RSYN (io), 99 NC (io), 100 PSLV_CS# (io), 101 VCC33 (power), 102 CTS1 (io), 103 RTS1/TNOW1 (io), 104 ELINK# (io), 105 PSLV_TSYN (io), 106 XBUS_RD#/PSLV_RD# (io), 107 XBUS_WR#/PSLV_WR# (io), 108 VCC18 (power), 109 GND (power), 110 RXD0 (io), 111 TXD0 (io), 112 RXD1 (io), 113 TXD1 (io), 114 SPI0_SCS (io), 115 SPI0_SCK (io), 116 SPI0_MOSI (io), 117 SPI0_MISO (io), 118 XBUS_D0/PSLV_D0 (io), 119 XBUS_D1/PSLV_D1 (io), 120 XBUS_D2/PSLV_D2 (io), 121 XBUS_D3/PSLV_D3 (io), 122 VCC33 (power), 123 XBUS_D4/PSLV_D4 (io), 124 XBUS_D5/PSLV_D5 (io), 125 XBUS_D6/PSLV_D6 (io), 126 XBUS_D7/PSLV_D7 (io), 127 NC (in), 128 NC (in)

## CH9140
designator U?
Bluetooth-LowEnergy to UART
footprint QFN28_4X4
pins: 0 GND (power), 1 X32KO (out), 2 X32KI (in), 3 VDD_D (power), 4 VSW (power), 5 VCC (power), 6 RELOAD/LED (io), 7 SWREG_EN (in), 8 DCD# (in), 9 DSR# (in), 10 RI# (in), 11 DTR# (out), 12 RTS# (out), 13 CTS# (in), 14 TXD (out), 15 RXD (in), 16 RST# (in), 17 TNOW (out), 18 X32MO (out), 19 X32MI (in), 20 VINTA (power), 21 ANT, 22 VDD_A (power), 23 BLESTA (out), 24 BLE_MODE (in), 25 SLEEP (in), 26 BPS2 (in), 27 BPS1 (in), 28 BPS0 (in)

## CH9141
designator U?
Bluetooth-LowEnergy & UART Mutual Transport
footprint QFN28_4X4
pins: 0 GND (power), 1 X32KO, 2 X32KI, 3 VDD_D (power), 4 VSW (power), 5 VCC (power), 6 AT (in), 7 ADC, 8 DCD#/GPIO7 (io), 9 DSR#/GPIO6 (io), 10 RI#/GPIO5 (io), 11 DTR#/BLESTA/GPIO4 (io), 12 RTS#/TNOW (io), 13 CTS# (in), 14 TXD (out), 15 RXD (in), 16 RST# (in), 17 NC (hiz), 18 X32MO (out), 19 X32MI (in), 20 VINTA (power), 21 ANT, 22 VDD_A (power), 23 RELOAD/LED (io), 24 SLEEP (in), 25 GPIO3 (in), 26 GPIO2 (out), 27 GPIO1 (in), 28 GPIO0 (out)

## CH9141K
designator U?
Bluetooth-LowEnergy & UART Mutual Transport
footprint ESSOP10
pins: 0 GND (power), 1 SLEEP (in), 2 VCC (power), 3 GND (power), 4 X32MI (in), 5 X32MO (out), 6 ANT (power), 7 VINTA (power), 8 RXD (in), 9 TXD (out), 10 AT (in)

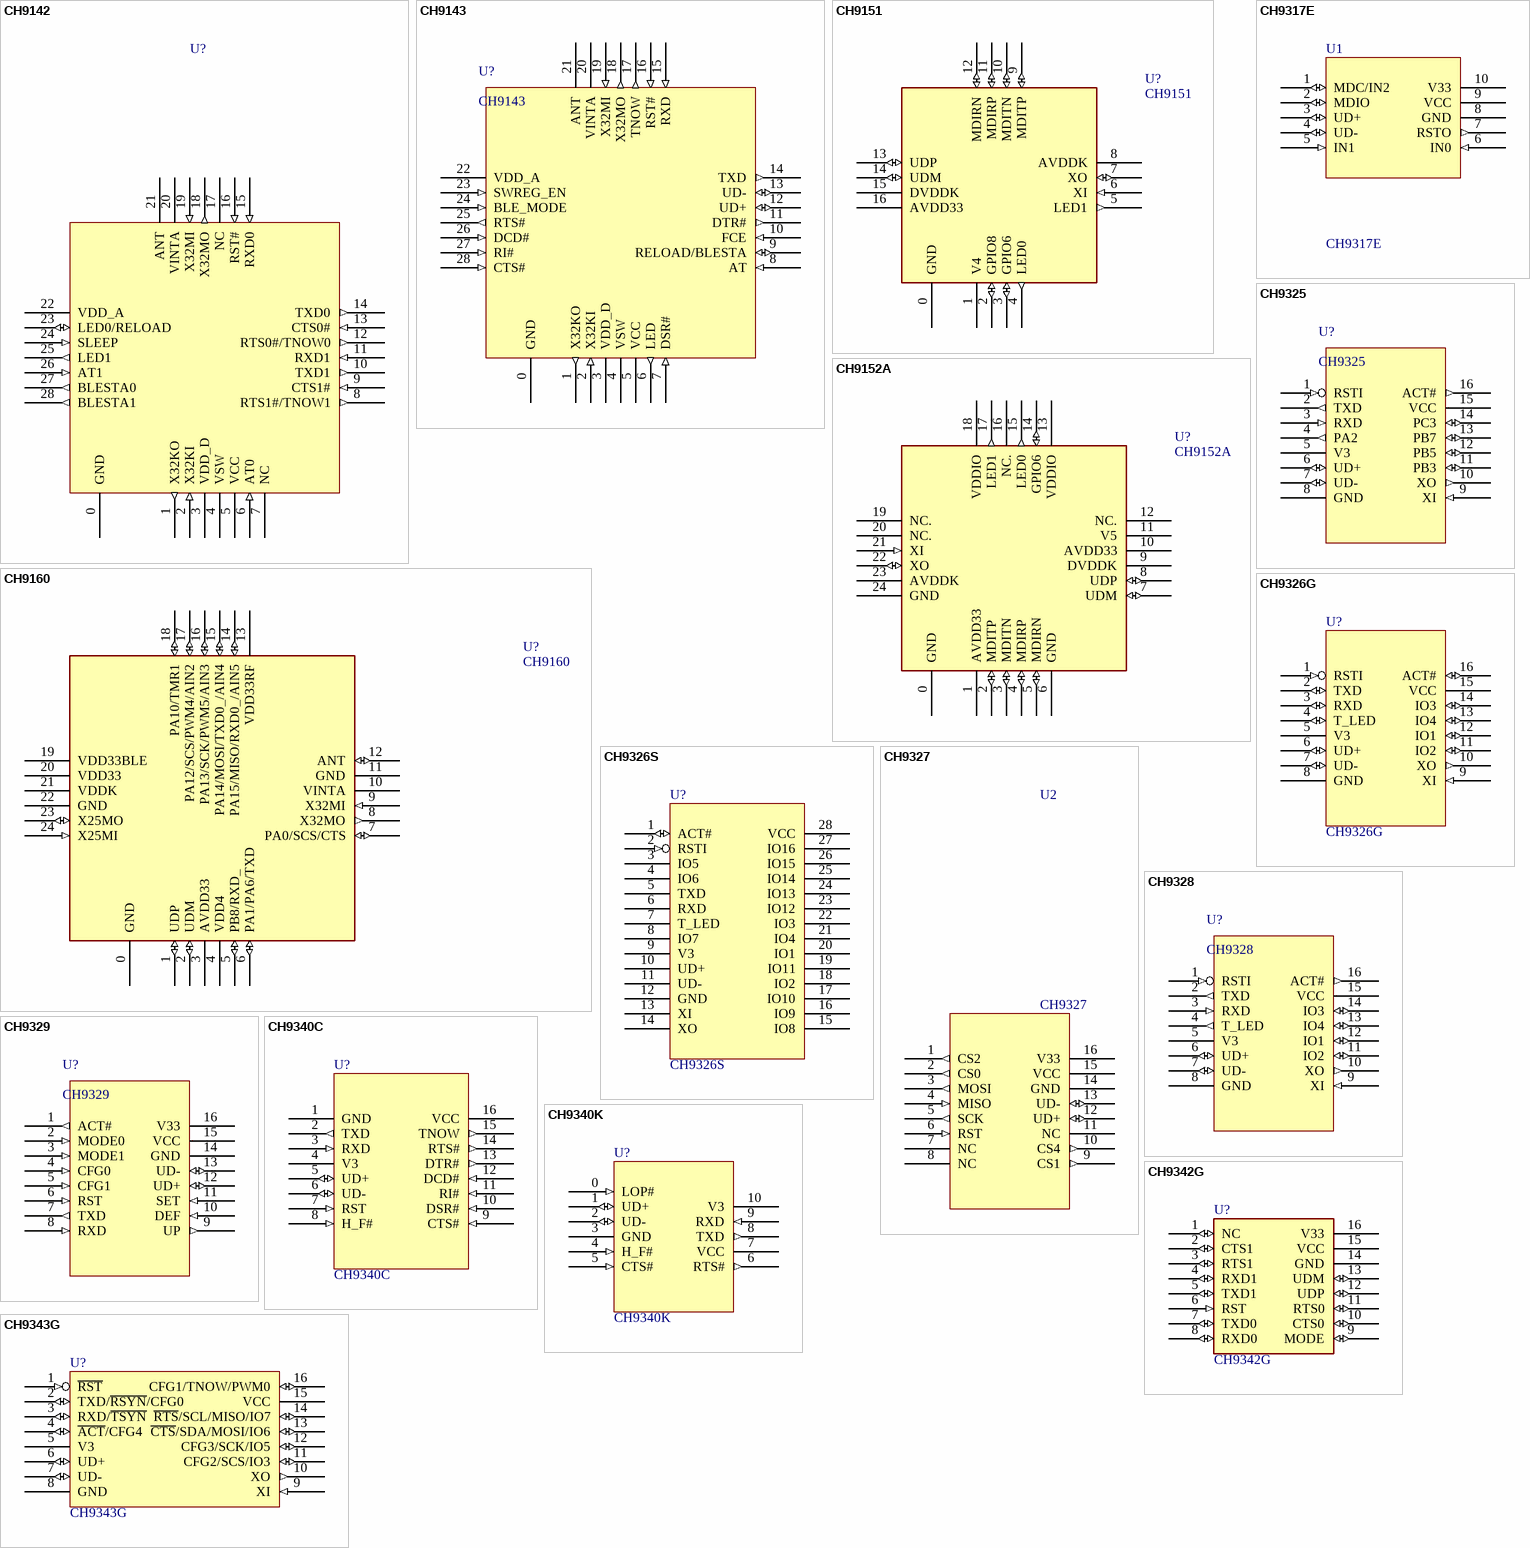
[diagram p66: symbols CH9142 to CH9343G]

## CH9142
designator U?  (value not drawn)
Bluetooth-LowEnergy & Double UART Mutual Transport
footprint QFN28_4X4
pins: 0 GND (power), 1 X32KO (out), 2 X32KI (in), 3 VDD_D (power), 4 VSW (power), 5 VCC (power), 6 AT0 (in), 7 NC, 8 RTS1#/TNOW1 (out), 9 CTS1# (in), 10 TXD1 (out), 11 RXD1 (in), 12 RTS0#/TNOW0 (out), 13 CTS0# (in), 14 TXD0 (out), 15 RXD0 (in), 16 RST# (in), 17 NC, 18 X32MO (out), 19 X32MI (in), 20 VINTA (power), 21 ANT, 22 VDD_A (power), 23 LED0/RELOAD (io), 24 SLEEP (in), 25 LED1 (out), 26 AT1 (in), 27 BLESTA0 (out), 28 BLESTA1 (out)

## CH9143
designator U?
Bluetooth-LowEnergy & UART & USB Mutual Transport
footprint QFN28_4X4
pins: 0 GND (power), 1 X32KO (out), 2 X32KI (in), 3 VDD_D (power), 4 VSW (power), 5 VCC (power), 6 LED (out), 7 DSR# (in), 8 AT (in), 9 RELOAD/BLESTA (io), 10 FCE (in), 11 DTR# (out), 12 UD+ (io), 13 UD- (io), 14 TXD (out), 15 RXD (in), 16 RST# (in), 17 TNOW (out), 18 X32MO (out), 19 X32MI (in), 20 VINTA (power), 21 ANT, 22 VDD_A (power), 23 SWREG_EN (in), 24 BLE_MODE (in), 25 RTS# (out), 26 DCD# (in), 27 RI# (in), 28 CTS# (in)

## CH9151
designator U?
USB2.0 to 10/100M Fast Ethernet with Driver Flash
footprint QFN16_3X3
pins: 0 GND (power), 1 V4 (power), 2 GPIO8 (io), 3 GPIO6 (io), 4 LED0 (out), 5 LED1 (out), 6 XI (in), 7 XO (io), 8 AVDDK (power), 9 MDITP (io), 10 MDITN (io), 11 MDIRP (io), 12 MDIRN (io), 13 UDP (io), 14 UDM (io), 15 DVDDK (power), 16 AVDD33 (power)
2 alternate drawings of the same symbol

## CH9152A
designator U?
USB2.0 to 10/100M Fast Ethernet with Driver Flash
footprint QFN24_4X4
pins: 0 GND (power), 1 AVDD33 (power), 2 MDITP (io), 3 MDITN (io), 4 MDIRP (io), 5 MDIRN (io), 6 GND (power), 7 UDM (io), 8 UDP (io), 9 DVDDK (power), 10 AVDD33 (power), 11 V5 (power), 12 NC., 13 VDDIO (power), 14 GPIO6 (io), 15 LED0 (out), 16 NC., 17 LED1 (out), 18 VDDIO (power), 19 NC., 20 NC., 21 XI (in), 22 XO (io), 23 AVDDK (power), 24 GND (power)
2 alternate drawings of the same symbol

## CH9160
designator U?
BLE to USB2.0 high speed HID
footprint QFN24_4X4 (Footprint not found)
pins: 0 GND (power), 1 UDP (io), 2 UDM (io), 3 AVDD33 (power), 4 VDD4 (power), 5 PB8/RXD_ (io), 6 PA1/PA6/TXD (io), 7 PA0/SCS/CTS (io), 8 X32MO (out), 9 X32MI (in), 10 VINTA (power), 11 GND (power), 12 ANT (io), 13 VDD33RF (power), 14 PA15/MISO/RXD0_/AIN5 (io), 15 PA14/MOSI/TXD0_/AIN4 (io), 16 PA13/SCK/PWM5/AIN3 (io), 17 PA12/SCS/PWM4/AIN2 (io), 18 PA10/TMR1 (io), 19 VDD33BLE (power), 20 VDD33 (power), 21 VDDK (power), 22 GND (power), 23 X25MO (io), 24 X25MI (in)
2 alternate drawings of the same symbol

## CH9317E
designator U1
Auxiliary Configuration for CH317L
footprint MSOP10
pins: 1 MDC/IN2 (io), 2 MDIO (io), 3 UD+ (io), 4 UD- (io), 5 IN1 (in), 6 IN0 (in), 7 RSTO (out), 8 GND (power), 9 VCC (power), 10 V33 (power)

## CH9325
designator U?
USB HID to TTL Serial / UART
footprint SOP16
pins: 1 RSTI (in), 2 TXD (out), 3 RXD (in), 4 PA2 (out), 5 V3 (power), 6 UD+ (io), 7 UD- (io), 8 GND (power), 9 XI (in), 10 XO (out), 11 PB3 (io), 12 PB5 (io), 13 PB7 (io), 14 PC3 (io), 15 VCC (power), 16 ACT# (out)

## CH9326G
designator U?
HID USB to UART Bridge, TTL Serial
footprint SOP16
pins: 1 RSTI (in), 2 TXD (io), 3 RXD (io), 4 T_LED (io), 5 V3 (power), 6 UD+ (io), 7 UD- (io), 8 GND (power), 9 XI (in), 10 XO (out), 11 IO2 (io), 12 IO1 (io), 13 IO4 (io), 14 IO3 (io), 15 VCC (power), 16 ACT# (io)

## CH9326S
designator U?
HID USB to UART Bridge, TTL Serial
footprint SOP28
pins: 1 ACT# (io), 2 RSTI (in), 3 IO5, 4 IO6, 5 TXD, 6 RXD, 7 T_LED, 8 IO7, 9 V3, 10 UD+, 11 UD-, 12 GND, 13 XI, 14 XO, 15 IO8, 16 IO9, 17 IO10, 18 IO2, 19 IO11, 20 IO1, 21 IO4, 22 IO3, 23 IO12, 24 IO13, 25 IO14, 26 IO15, 27 IO16, 28 VCC

## CH9327
designator U2
USB to SPI
footprint SOP16
pins: 1 CS2 (out), 2 CS0 (out), 3 MOSI (out), 4 MISO (in), 5 SCK (out), 6 RST (in), 7 NC, 8 NC, 9 CS1 (out), 10 CS4 (out), 11 NC, 12 UD+ (io), 13 UD- (io), 14 GND (power), 15 VCC (power), 16 V33 (power)
2 alternate drawings of the same symbol

## CH9328
designator U?
UART to USB Keyboard
footprint SOP16
pins: 1 RSTI (in), 2 TXD (out), 3 RXD (in), 4 T_LED (out), 5 V3 (power), 6 UD+ (io), 7 UD- (io), 8 GND (power), 9 XI (in), 10 XO (out), 11 IO2 (io), 12 IO1 (io), 13 IO4 (io), 14 IO3 (io), 15 VCC (power), 16 ACT# (out)

## CH9329
designator U?
UART to USB HID Device
footprint SOP16
pins: 1 ACT# (out), 2 MODE0 (in), 3 MODE1 (in), 4 CFG0 (in), 5 CFG1 (in), 6 RST (in), 7 TXD (out), 8 RXD (in), 9 UP (out), 10 DEF (in), 11 SET (in), 12 UD+ (io), 13 UD- (io), 14 GND (power), 15 VCC (power), 16 V33 (power)

## CH9340C
designator U?
USB CDC to TTL Serial / UART
footprint SOP16
pins: 1 GND (power), 2 TXD (out), 3 RXD (in), 4 V3 (power), 5 UD+ (io), 6 UD- (io), 7 RST (in), 8 H_F# (in), 9 CTS# (in), 10 DSR# (in), 11 RI# (in), 12 DCD# (in), 13 DTR# (out), 14 RTS# (out), 15 TNOW (out), 16 VCC (power)

## CH9340K
designator U?
USB CDC to TTL Serial / UART
footprint ESSOP10
pins: 0 LOP# (in), 1 UD+ (io), 2 UD- (io), 3 GND (power), 4 H_F# (in), 5 CTS# (in), 6 RTS# (out), 7 VCC (power), 8 TXD (out), 9 RXD (in), 10 V3 (power)

## CH9342G
designator U?
USB to dual TTL Serial / 2*UART
footprint SOP16
pins: 1 NC (io), 2 CTS1 (io), 3 RTS1 (io), 4 RXD1 (io), 5 TXD1 (io), 6 RST (in), 7 TXD0 (io), 8 RXD0 (io), 9 MODE (io), 10 CTS0 (io), 11 RTS0 (io), 12 UDP (io), 13 UDM (io), 14 GND (power), 15 VCC (power), 16 V33 (power)
2 alternate drawings of the same symbol

## CH9343G
designator U?
Full-Speed USB host for accessing peripheral hardware from Android platform
footprint SOP16
pins: 1 ~{RST} (in), 2 TXD/~{RSYN}/CFG0 (io), 3 RXD/~{TSYN} (io), 4 ~{ACT}/CFG4 (io), 5 V3 (power), 6 UD+ (io), 7 UD- (io), 8 GND (power), 9 XI (in), 10 XO (out), 11 CFG2/SCS/IO3 (io), 12 CFG3/SCK/IO5 (io), 13 ~{CTS}/SDA/MOSI/IO6 (io), 14 ~{RTS}/SCL/MISO/IO7 (io), 15 VCC (power), 16 CFG1/TNOW/PWM0 (io)

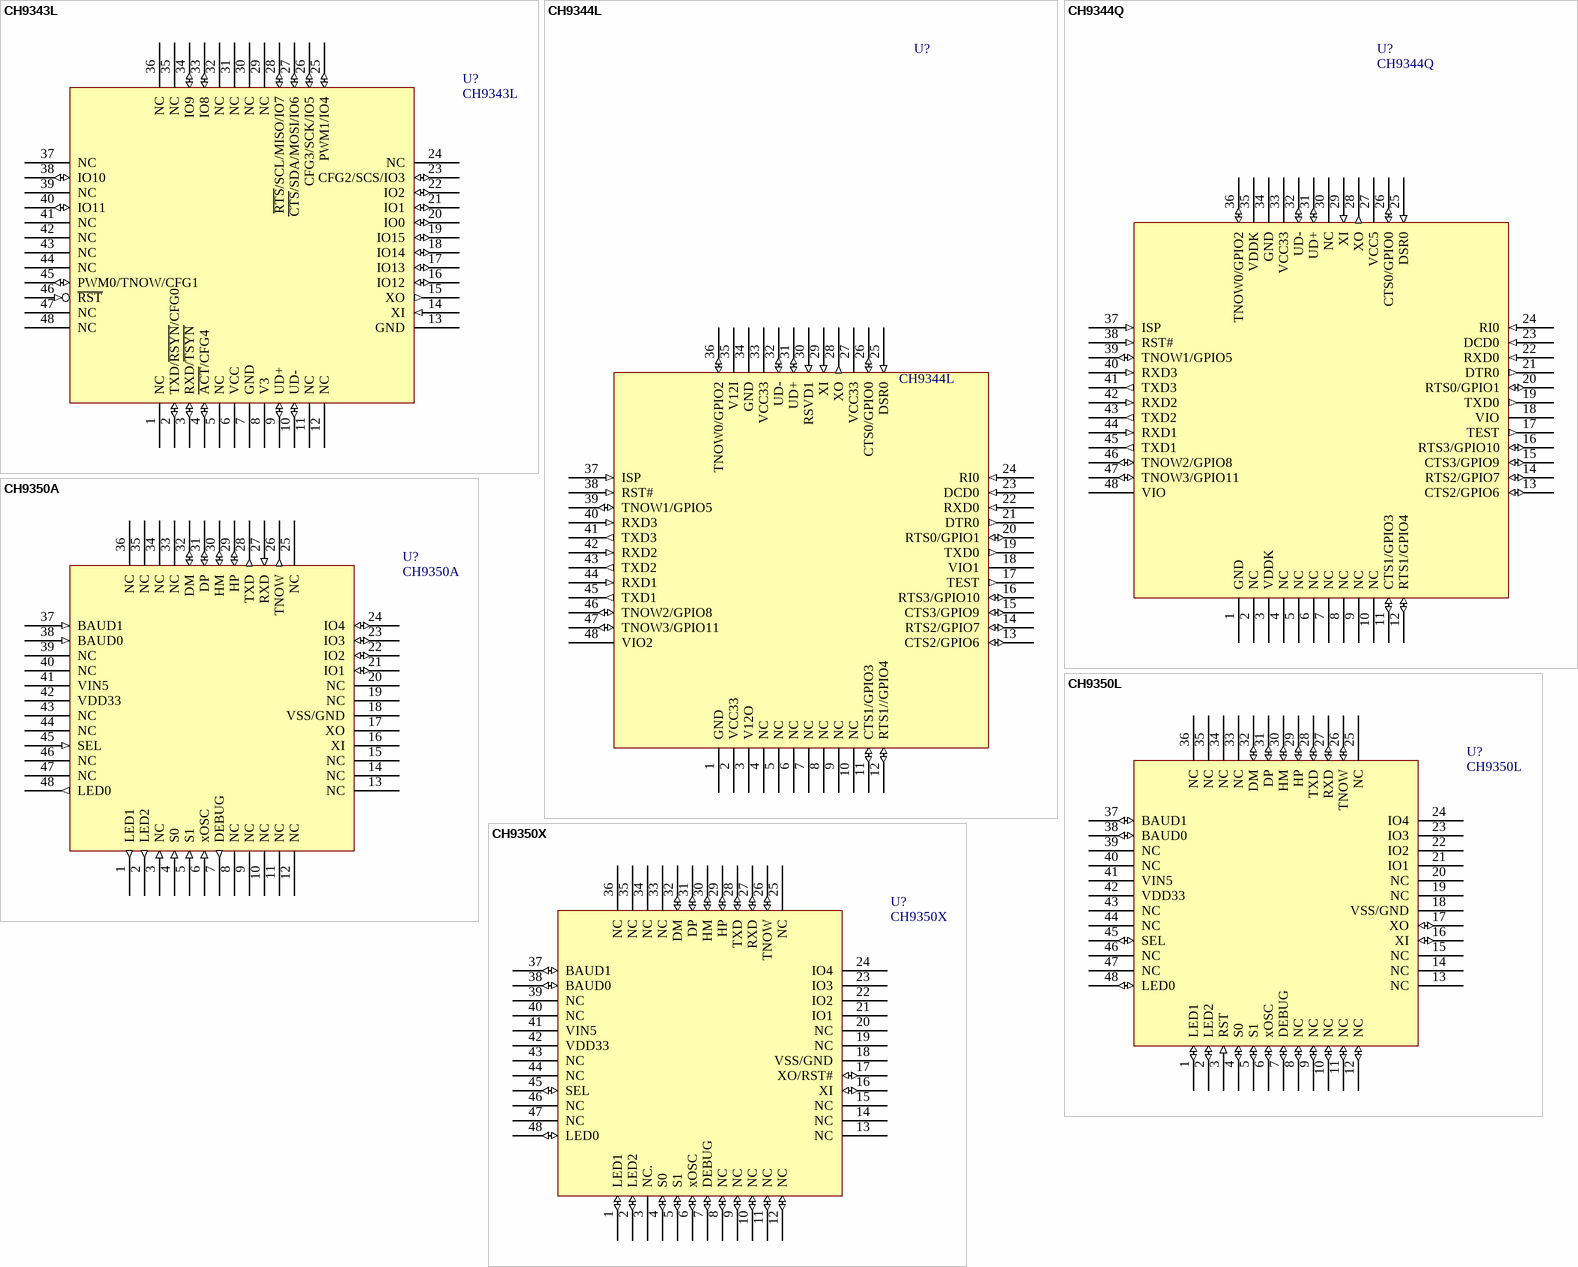
[diagram p67: symbols CH9343L to CH9350X]

## CH9343L
designator U?
Full-Speed USB host for accessing peripheral hardware from Android platform
footprint LQFP48
pins: 1 NC, 2 TXD/~{RSYN}/CFG0 (io), 3 RXD/~{TSYN} (io), 4 ~{ACT}/CFG4 (io), 5 NC, 6 VCC (power), 7 GND (power), 8 V3 (power), 9 UD+ (io), 10 UD- (io), 11 NC, 12 NC, 13 GND (power), 14 XI (in), 15 XO (out), 16 IO12 (io), 17 IO13 (io), 18 IO14 (io), 19 IO15 (io), 20 IO0 (io), 21 IO1 (io), 22 IO2 (io), 23 CFG2/SCS/IO3 (io), 24 NC, 25 PWM1/IO4 (io), 26 CFG3/SCK/IO5 (io), 27 ~{CTS}/SDA/MOSI/IO6 (io), 28 ~{RTS}/SCL/MISO/IO7 (io), 29 NC, 30 NC, 31 NC, 32 NC, 33 IO8 (io), 34 IO9 (io), 35 NC, 36 NC, 37 NC, 38 IO10 (io), 39 NC, 40 IO11 (io), 41 NC, 42 NC, 43 NC, 44 NC, 45 PWM0/TNOW/CFG1 (io), 46 ~{RST} (in), 47 NC, 48 NC

## CH9344L
designator U?
USB high-speed to quad TTL Serial / UART
footprint LQFP48
pins: 1 GND (power), 2 VCC33 (power), 3 V12O (power), 4 NC, 5 NC, 6 NC, 7 NC, 8 NC, 9 NC, 10 NC, 11 CTS1/GPIO3 (io), 12 RTS1//GPIO4 (io), 13 CTS2/GPIO6 (io), 14 RTS2/GPIO7 (io), 15 CTS3/GPIO9 (io), 16 RTS3/GPIO10 (io), 17 TEST (out), 18 VIO1 (power), 19 TXD0 (out), 20 RTS0/GPIO1 (io), 21 DTR0 (out), 22 RXD0 (in), 23 DCD0 (in), 24 RI0 (in), 25 DSR0 (in), 26 CTS0/GPIO0 (io), 27 VCC33 (power), 28 XO (out), 29 XI (in), 30 RSVD1 (in), 31 UD+ (io), 32 UD- (io), 33 VCC33 (power), 34 GND (power), 35 V12I (power), 36 TNOW0/GPIO2 (io), 37 ISP (in), 38 RST# (in), 39 TNOW1/GPIO5 (io), 40 RXD3 (in), 41 TXD3 (out), 42 RXD2 (in), 43 TXD2 (out), 44 RXD1 (in), 45 TXD1 (out), 46 TNOW2/GPIO8 (io), 47 TNOW3/GPIO11 (io), 48 VIO2 (power)

## CH9344Q
designator U?
USB high-speed to quad TTL Serial / UART
footprint LQFP48
pins: 1 GND (power), 2 NC, 3 VDDK (power), 4 NC, 5 NC, 6 NC, 7 NC, 8 NC, 9 NC, 10 NC, 11 CTS1/GPIO3 (io), 12 RTS1/GPIO4 (io), 13 CTS2/GPIO6 (io), 14 RTS2/GPIO7 (io), 15 CTS3/GPIO9 (io), 16 RTS3/GPIO10 (io), 17 TEST (out), 18 VIO (power), 19 TXD0 (out), 20 RTS0/GPIO1 (io), 21 DTR0 (out), 22 RXD0 (in), 23 DCD0 (in), 24 RI0 (in), 25 DSR0 (in), 26 CTS0/GPIO0 (io), 27 VCC5 (power), 28 XO (out), 29 XI (in), 30 NC, 31 UD+ (io), 32 UD- (io), 33 VCC33 (power), 34 GND (power), 35 VDDK (power), 36 TNOW0/GPIO2 (io), 37 ISP (in), 38 RST# (in), 39 TNOW1/GPIO5 (io), 40 RXD3 (in), 41 TXD3 (out), 42 RXD2 (in), 43 TXD2 (out), 44 RXD1 (in), 45 TXD1 (out), 46 TNOW2/GPIO8 (io), 47 TNOW3/GPIO11 (io), 48 VIO (power)

## CH9350A
designator U?
USB keyboard & USB mouse to TTL serial / UART
footprint LQFP48
pins: 1 LED1 (out), 2 LED2 (out), 3 NC (in), 4 S0 (in), 5 S1 (in), 6 xOSC (in), 7 DEBUG (out), 8 NC, 9 NC, 10 NC, 11 NC, 12 NC, 13 NC, 14 NC, 15 NC, 16 XI, 17 XO, 18 VSS/GND, 19 NC, 20 NC, 21 IO1 (io), 22 IO2 (io), 23 IO3 (io), 24 IO4 (io), 25 NC, 26 TNOW (out), 27 RXD (in), 28 TXD (out), 29 HP (io), 30 HM (io), 31 DP (io), 32 DM (io), 33 NC, 34 NC, 35 NC, 36 NC, 37 BAUD1 (in), 38 BAUD0 (in), 39 NC, 40 NC, 41 VIN5, 42 VDD33, 43 NC, 44 NC, 45 SEL (in), 46 NC, 47 NC, 48 LED0 (out)
2 alternate drawings of the same symbol

## CH9350L
designator U?
USB keyboard & USB mouse to TTL serial / UART
footprint LQFP48
pins: 1 LED1 (io), 2 LED2 (io), 3 RST (in), 4 S0 (io), 5 S1 (io), 6 xOSC (io), 7 DEBUG (io), 8 NC (io), 9 NC (io), 10 NC (io), 11 NC (io), 12 NC (io), 13 NC, 14 NC, 15 NC, 16 XI (io), 17 XO (io), 18 VSS/GND (power), 19 NC, 20 NC, 21 IO1, 22 IO2, 23 IO3, 24 IO4, 25 NC, 26 TNOW (io), 27 RXD (io), 28 TXD (io), 29 HP (io), 30 HM (io), 31 DP (io), 32 DM (io), 33 NC, 34 NC, 35 NC, 36 NC, 37 BAUD1 (io), 38 BAUD0 (io), 39 NC, 40 NC, 41 VIN5 (power), 42 VDD33 (power), 43 NC, 44 NC, 45 SEL (io), 46 NC, 47 NC, 48 LED0 (io)
2 alternate drawings of the same symbol

## CH9350X
designator U?
USB keyboard & USB mouse to TTL serial / UART
footprint LQFP48
pins: 1 LED1 (io), 2 LED2 (io), 3 NC., 4 S0 (io), 5 S1 (io), 6 xOSC (io), 7 DEBUG (io), 8 NC (io), 9 NC (io), 10 NC (io), 11 NC (io), 12 NC (io), 13 NC, 14 NC, 15 NC, 16 XI (io), 17 XO/RST# (io), 18 VSS/GND (power), 19 NC, 20 NC, 21 IO1, 22 IO2, 23 IO3, 24 IO4, 25 NC, 26 TNOW (io), 27 RXD (io), 28 TXD (io), 29 HP (io), 30 HM (io), 31 DP (io), 32 DM (io), 33 NC, 34 NC, 35 NC, 36 NC, 37 BAUD1 (io), 38 BAUD0 (io), 39 NC, 40 NC, 41 VIN5 (power), 42 VDD33 (power), 43 NC, 44 NC, 45 SEL (io), 46 NC, 47 NC, 48 LED0 (io)
2 alternate drawings of the same symbol

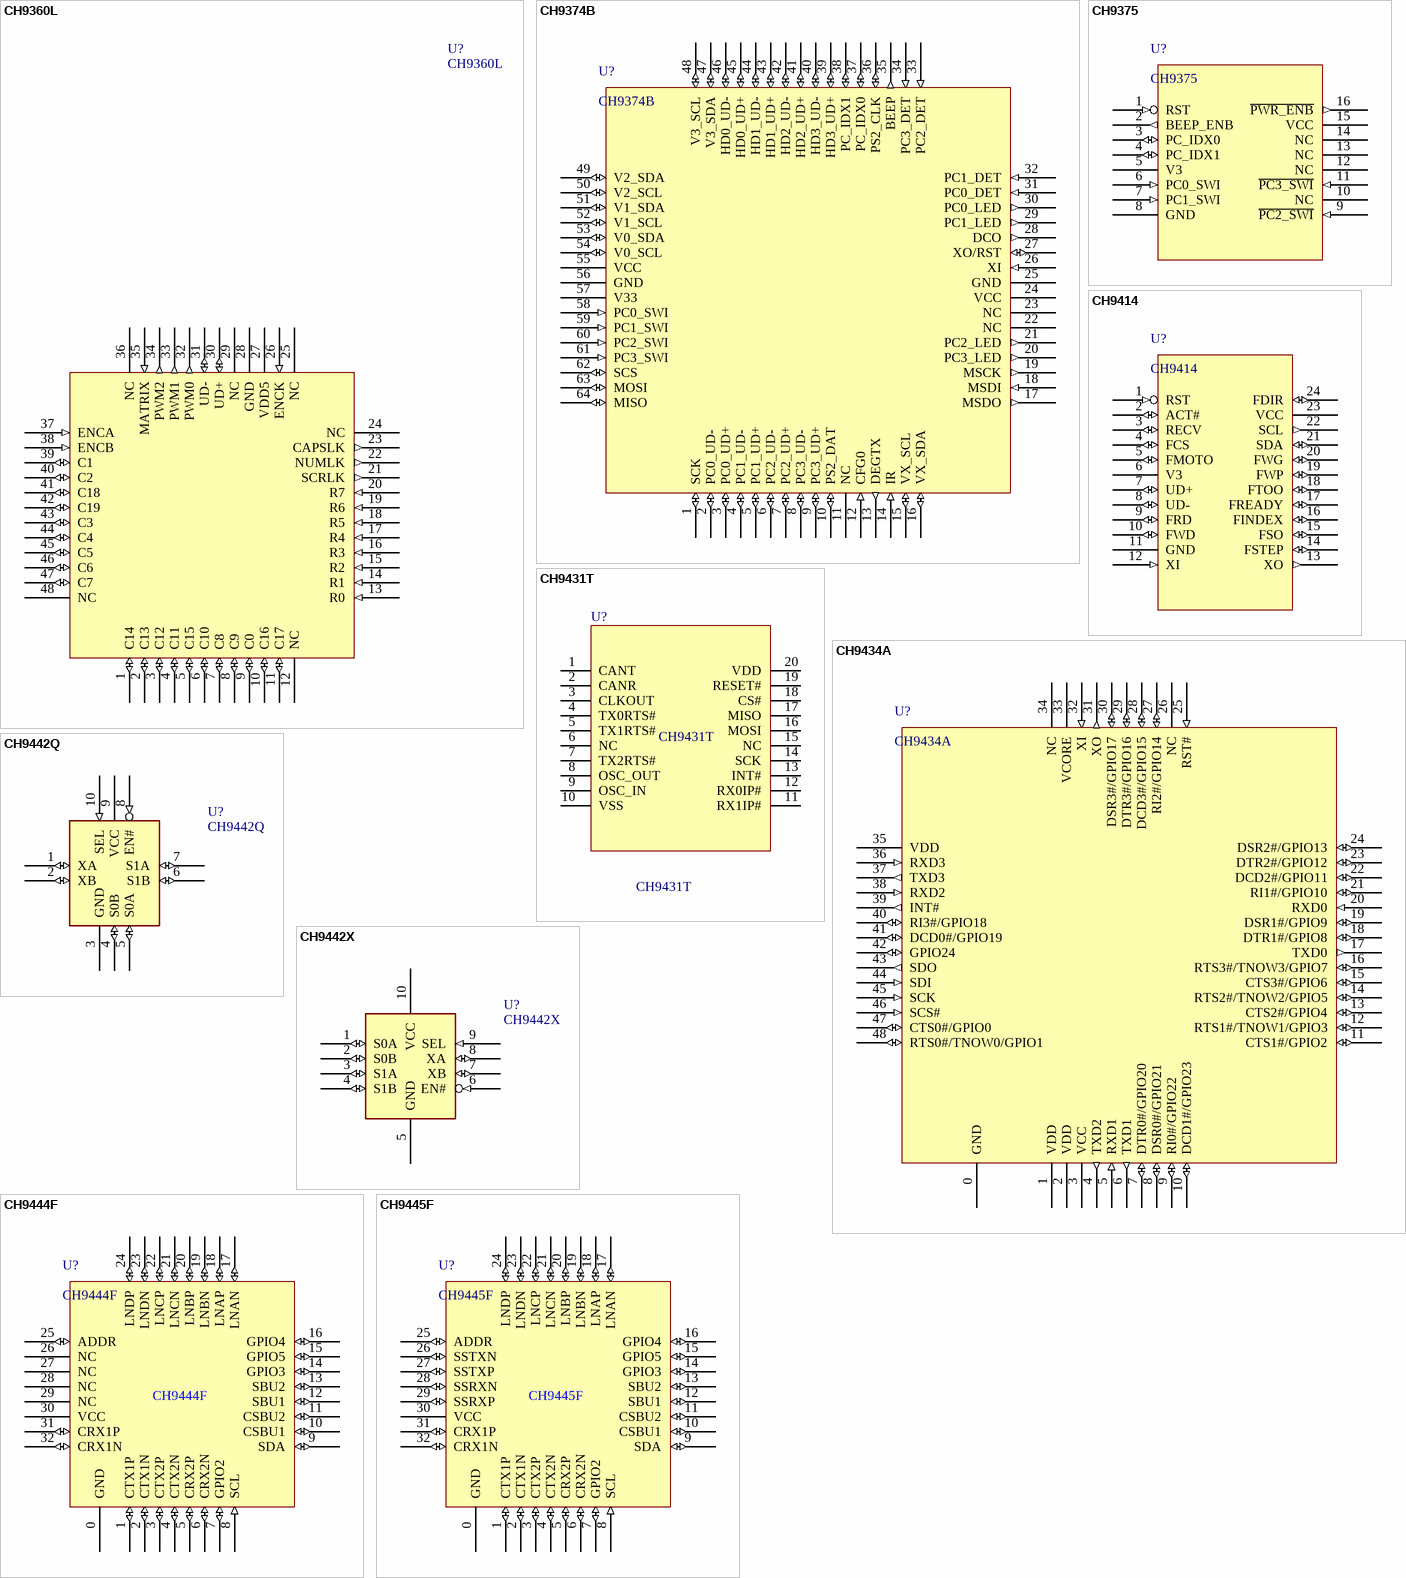
[diagram p68: symbols CH9360L to CH9445F]

## CH9360L
designator U?
USB keyboard controller
footprint LQFP48
pins: 1 C14 (io), 2 C13 (io), 3 C12 (io), 4 C11 (io), 5 C15 (io), 6 C10 (io), 7 C8 (io), 8 C9 (io), 9 C0 (io), 10 C16 (io), 11 C17 (io), 12 NC, 13 R0 (in), 14 R1 (in), 15 R2 (in), 16 R3 (in), 17 R4 (in), 18 R5 (in), 19 R6 (in), 20 R7 (in), 21 SCRLK (out), 22 NUMLK (out), 23 CAPSLK (out), 24 NC, 25 NC, 26 ENCK (in), 27 VDD5 (power), 28 GND (power), 29 NC, 30 UD+ (io), 31 UD- (io), 32 PWM0 (out), 33 PWM1 (out), 34 PWM2 (out), 35 MATRIX (in), 36 NC, 37 ENCA (in), 38 ENCB (in), 39 C1 (io), 40 C2 (io), 41 C18 (io), 42 C19 (io), 43 C3 (io), 44 C4 (io), 45 C5 (io), 46 C6 (io), 47 C7 (io), 48 NC